# Altium integrated library NXP_60_26022015.IntLib: 1306 symbols (part 8 of 28)
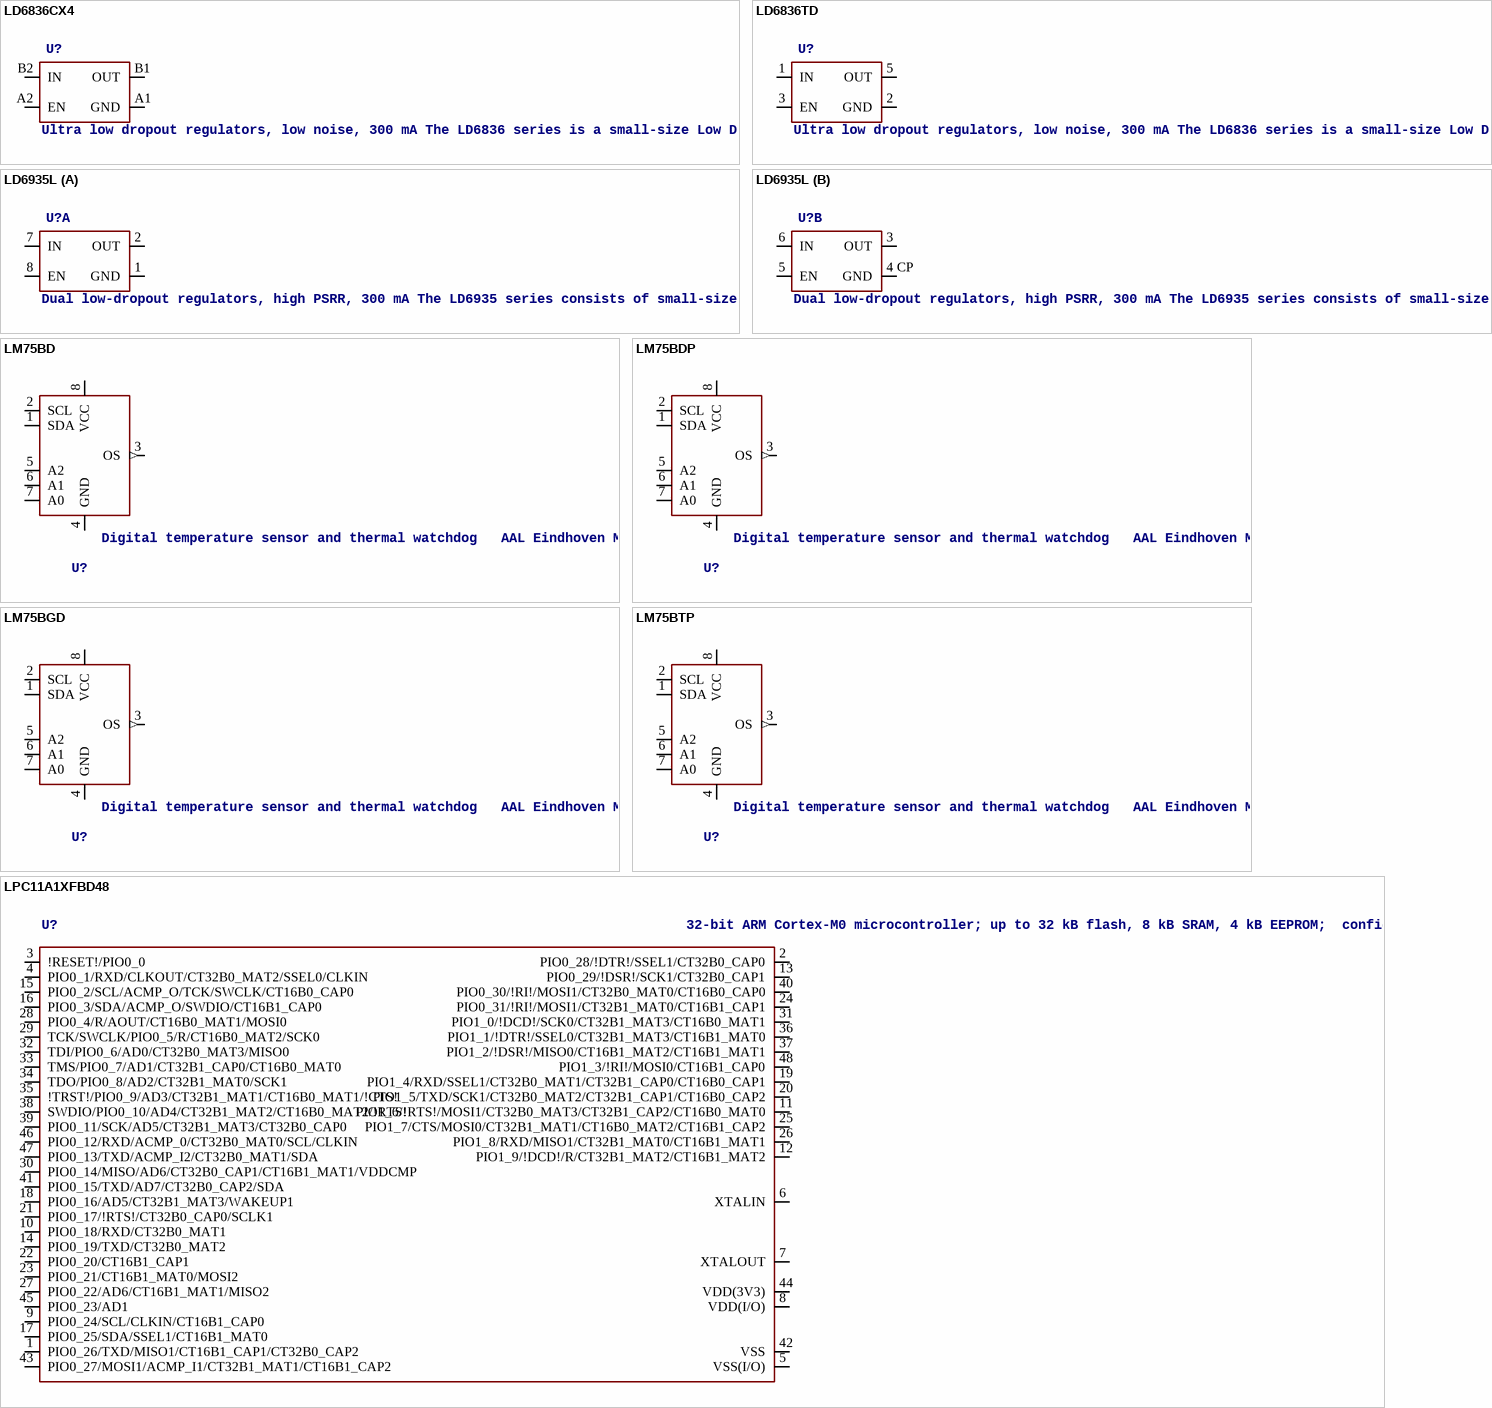
[diagram p192: symbols LD6836CX4 to LPC11A1XFBD48]

## LD6935L
designator U?, comment Dual low-dropout regulators, high PSRR, 300 mA The LD6935 series consists of small-size dual Low DropOut regulators (LDO). Each device delivers two times 300 mA with a typical voltage drop of 240 mV at 300 mA for each LDO. Each device offers two individual fixed nominal output voltages (VO(nom)) from 1.2 V to 3.6 V. The LDO has an integrated Soft start to control the inrush current during start-up. The output states when disabled can be high-ohmic 3-state or auto discharge. Optionally a delayed output circuit is available for the second output. The devices are available in DFN1612-8 (SOT1225) plastic package with a height of 0.4 mm.    AAL Eindhoven MK
OUT1: 1V8; OUT2: 2V8; OUTPUT: Pull Down; OUTPUT: High Ohmic; MISC: Delay Circuit; OUT1: 3V1; OUT1: 3V3; OUT1: 2V8; OUT2: 1V8; OUT2: 3V3
footprint SOT1225
part A pins: 1 GND (power), 2 OUT, 7 IN, 8 EN
part B pins: 3 OUT, 4 CP GND (power), 5 EN, 6 IN

## LM75BD
designator U?, comment Digital temperature sensor and thermal watchdog   AAL Eindhoven MK
footprint SOT96-1
pins: 1 SDA, 2 SCL, 3 OS (out), 4 GND, 5 A2, 6 A1, 7 A0, 8 VCC (power)

## LM75BDP
designator U?, comment Digital temperature sensor and thermal watchdog   AAL Eindhoven MK
footprint SOT505-1
pins: 1 SDA, 2 SCL, 3 OS (out), 4 GND, 5 A2, 6 A1, 7 A0, 8 VCC (power)

## LM75BGD
designator U?, comment Digital temperature sensor and thermal watchdog   AAL Eindhoven MK
footprint SOT996-2/3
pins: 1 SDA, 2 SCL, 3 OS (out), 4 GND, 5 A2, 6 A1, 7 A0, 8 VCC (power)

## LM75BTP
designator U?, comment Digital temperature sensor and thermal watchdog   AAL Eindhoven MK
footprint SOT1069-2
pins: 1 SDA, 2 SCL, 3 OS (out), 4 GND, 5 A2, 6 A1, 7 A0, 8 VCC (power)

## LPC11A1XFBD48
designator U?, comment 32-bit ARM Cortex-M0 microcontroller; up to 32 kB flash, 8 kB SRAM, 4 kB EEPROM;  configurable analog/mixed-signal The LPC11Axx are an ARM Cortex-M0 based, low-cost 32-bit MCU family, designed for 8/16-bit microcontroller applications, offering performance, low power, simple instruction set and memory addressing together with reduced code size compared to existing 8/16-bit architectures. The LPC11Axx operate at CPU frequencies of up to 50 MHz. Analog/mixed-signal subsystems can be configured by software from interconnected digital and analog peripherals. The digital peripherals on the LPC11Axx include up to 32 kB of flash memory, up to 4 kB of EEPROM data memory, up to 8 kB of SRAM data memory, a Fast-mode Plus I 2 C-bus interface, a RS-485/EIA-485 USART, two SSP controllers, four general purpose counter/timers, and up to 42 general purpose I/O pins. Analog peripherals include a 10-bit ADC, a 10-bit DAC, an analog comparator, a temperature sensor, an internal voltage reference, and UnderVoltage LockOut (UVLO) protection.    AAL Eindhoven MK
footprint SOT313-2
pins: 1 PIO0_26/TXD/MISO1/CT16B1_CAP1/CT32B0_CAP2, 2 PIO0_28/!DTR!/SSEL1/CT32B0_CAP0, 3 !RESET!/PIO0_0, 4 PIO0_1/RXD/CLKOUT/CT32B0_MAT2/SSEL0/CLKIN, 5 VSS(I/O) (power), 6 XTALIN, 7 XTALOUT, 8 VDD(I/O) (power), 9 PIO0_24/SCL/CLKIN/CT16B1_CAP0, 10 PIO0_18/RXD/CT32B0_MAT1, 11 PIO1_6/!RTS!/MOSI1/CT32B0_MAT3/CT32B1_CAP2/CT16B0_MAT0, 12 PIO1_9/!DCD!/R/CT32B1_MAT2/CT16B1_MAT2, 13 PIO0_29/!DSR!/SCK1/CT32B0_CAP1, 14 PIO0_19/TXD/CT32B0_MAT2, 15 PIO0_2/SCL/ACMP_O/TCK/SWCLK/CT16B0_CAP0, 16 PIO0_3/SDA/ACMP_O/SWDIO/CT16B1_CAP0, 17 PIO0_25/SDA/SSEL1/CT16B1_MAT0, 18 PIO0_16/AD5/CT32B1_MAT3/WAKEUP1, 19 PIO1_4/RXD/SSEL1/CT32B0_MAT1/CT32B1_CAP0/CT16B0_CAP1, 20 PIO1_5/TXD/SCK1/CT32B0_MAT2/CT32B1_CAP1/CT16B0_CAP2, 21 PIO0_17/!RTS!/CT32B0_CAP0/SCLK1, 22 PIO0_20/CT16B1_CAP1, 23 PIO0_21/CT16B1_MAT0/MOSI2, 24 PIO0_31/!RI!/MOSI1/CT32B1_MAT0/CT16B1_CAP1, 25 PIO1_7/CTS/MOSI0/CT32B1_MAT1/CT16B0_MAT2/CT16B1_CAP2, 26 PIO1_8/RXD/MISO1/CT32B1_MAT0/CT16B1_MAT1, 27 PIO0_22/AD6/CT16B1_MAT1/MISO2, 28 PIO0_4/R/AOUT/CT16B0_MAT1/MOSI0, 29 TCK/SWCLK/PIO0_5/R/CT16B0_MAT2/SCK0, 30 PIO0_14/MISO/AD6/CT32B0_CAP1/CT16B1_MAT1/VDDCMP, 31 PIO1_0/!DCD!/SCK0/CT32B1_MAT3/CT16B0_MAT1, 32 TDI/PIO0_6/AD0/CT32B0_MAT3/MISO0, 33 TMS/PIO0_7/AD1/CT32B1_CAP0/CT16B0_MAT0, 34 TDO/PIO0_8/AD2/CT32B1_MAT0/SCK1, 35 !TRST!/PIO0_9/AD3/CT32B1_MAT1/CT16B0_MAT1/!CTS!, 36 PIO1_1/!DTR!/SSEL0/CT32B1_MAT3/CT16B1_MAT0, 37 PIO1_2/!DSR!/MISO0/CT16B1_MAT2/CT16B1_MAT1, 38 SWDIO/PIO0_10/AD4/CT32B1_MAT2/CT16B0_MAT2/!RTS!, 39 PIO0_11/SCK/AD5/CT32B1_MAT3/CT32B0_CAP0, 40 PIO0_30/!RI!/MOSI1/CT32B0_MAT0/CT16B0_CAP0, 41 PIO0_15/TXD/AD7/CT32B0_CAP2/SDA, 42 VSS (power), 43 PIO0_27/MOSI1/ACMP_I1/CT32B1_MAT1/CT16B1_CAP2, 44 VDD(3V3) (power), 45 PIO0_23/AD1, 46 PIO0_12/RXD/ACMP_0/CT32B0_MAT0/SCL/CLKIN, 47 PIO0_13/TXD/ACMP_I2/CT32B0_MAT1/SDA, 48 PIO1_3/!RI!/MOSI0/CT16B1_CAP0

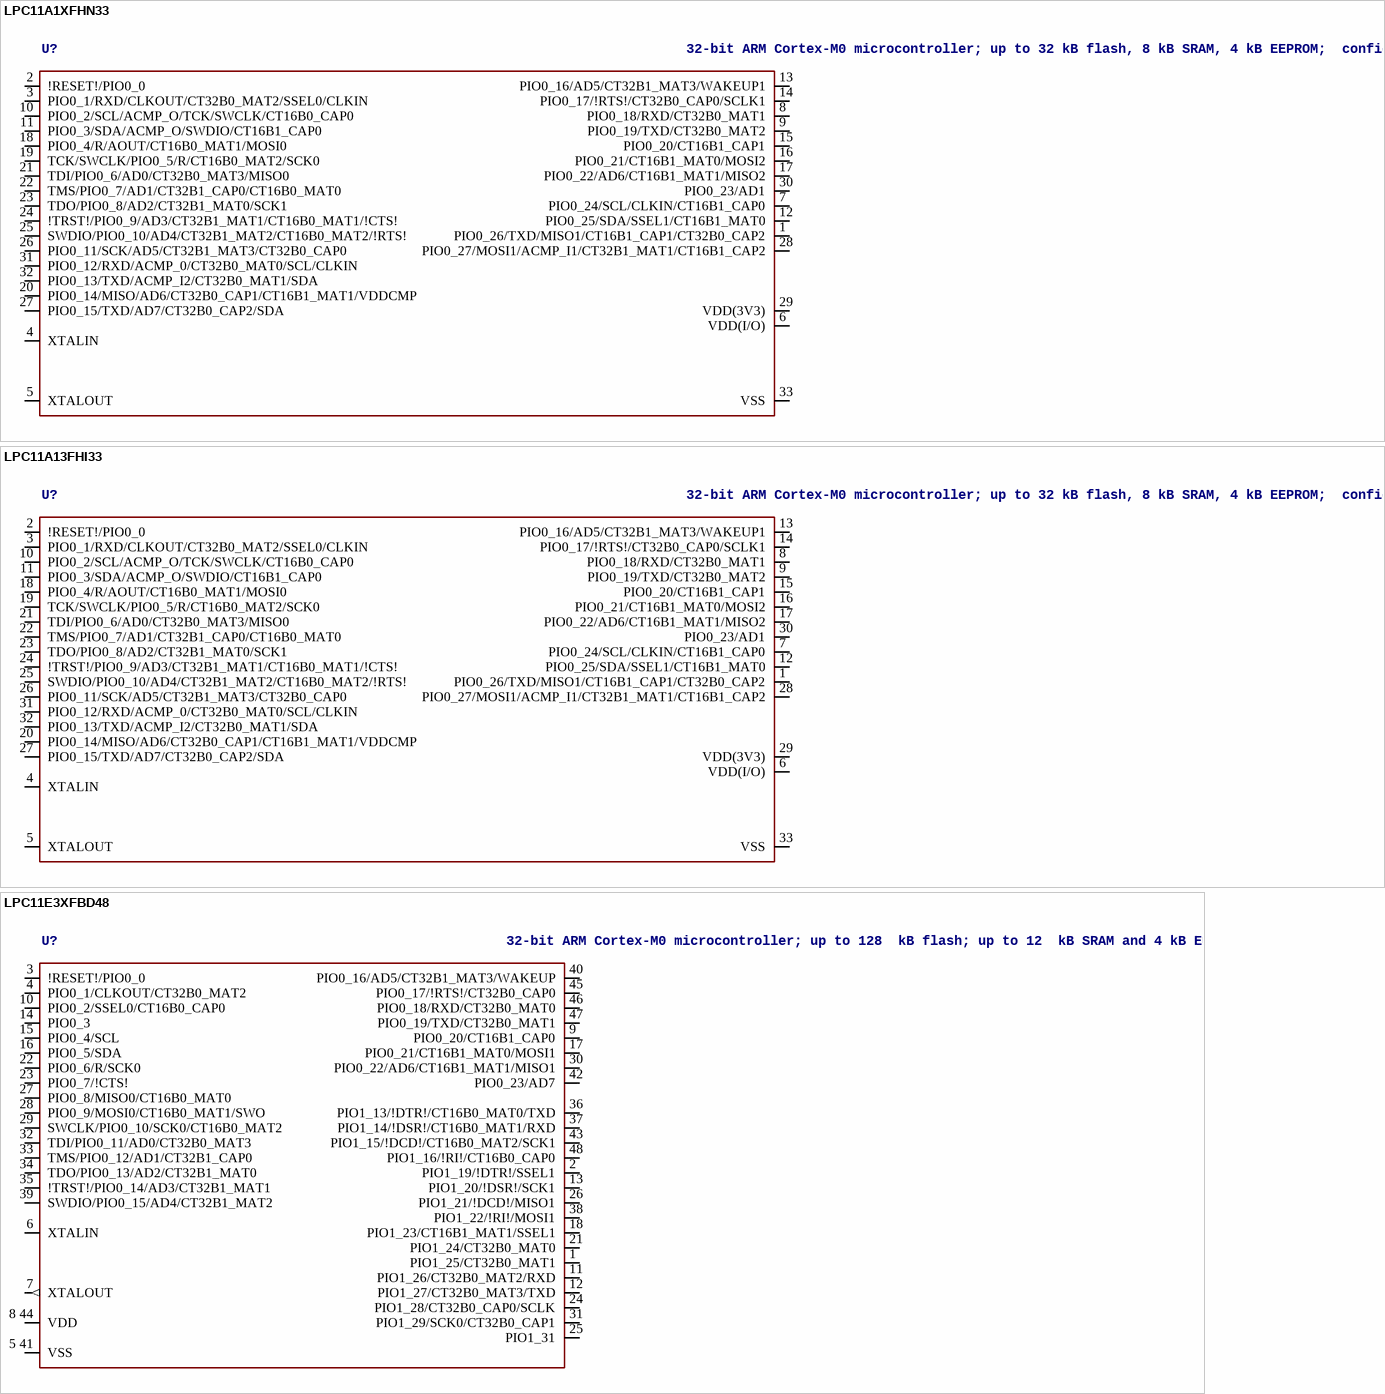
[diagram p40: symbols LPC11A1XFHN33 to LPC11E3XFBD48]

## LPC11A1XFHN33
designator U?, comment 32-bit ARM Cortex-M0 microcontroller; up to 32 kB flash, 8 kB SRAM, 4 kB EEPROM;  configurable analog/mixed-signal The LPC11Axx are an ARM Cortex-M0 based, low-cost 32-bit MCU family, designed for 8/16-bit microcontroller applications, offering performance, low power, simple instruction set and memory addressing together with reduced code size compared to existing 8/16-bit architectures. The LPC11Axx operate at CPU frequencies of up to 50 MHz. Analog/mixed-signal subsystems can be configured by software from interconnected digital and analog peripherals. The digital peripherals on the LPC11Axx include up to 32 kB of flash memory, up to 4 kB of EEPROM data memory, up to 8 kB of SRAM data memory, a Fast-mode Plus I 2 C-bus interface, a RS-485/EIA-485 USART, two SSP controllers, four general purpose counter/timers, and up to 42 general purpose I/O pins. Analog peripherals include a 10-bit ADC, a 10-bit DAC, an analog comparator, a temperature sensor, an internal voltage reference, and UnderVoltage LockOut (UVLO) protection.    AAL Eindhoven MK
footprint SOT-HVQFN33
pins: 1 PIO0_26/TXD/MISO1/CT16B1_CAP1/CT32B0_CAP2, 2 !RESET!/PIO0_0, 3 PIO0_1/RXD/CLKOUT/CT32B0_MAT2/SSEL0/CLKIN, 4 XTALIN, 5 XTALOUT, 6 VDD(I/O) (power), 7 PIO0_24/SCL/CLKIN/CT16B1_CAP0, 8 PIO0_18/RXD/CT32B0_MAT1, 9 PIO0_19/TXD/CT32B0_MAT2, 10 PIO0_2/SCL/ACMP_O/TCK/SWCLK/CT16B0_CAP0, 11 PIO0_3/SDA/ACMP_O/SWDIO/CT16B1_CAP0, 12 PIO0_25/SDA/SSEL1/CT16B1_MAT0, 13 PIO0_16/AD5/CT32B1_MAT3/WAKEUP1, 14 PIO0_17/!RTS!/CT32B0_CAP0/SCLK1, 15 PIO0_20/CT16B1_CAP1, 16 PIO0_21/CT16B1_MAT0/MOSI2, 17 PIO0_22/AD6/CT16B1_MAT1/MISO2, 18 PIO0_4/R/AOUT/CT16B0_MAT1/MOSI0, 19 TCK/SWCLK/PIO0_5/R/CT16B0_MAT2/SCK0, 20 PIO0_14/MISO/AD6/CT32B0_CAP1/CT16B1_MAT1/VDDCMP, 21 TDI/PIO0_6/AD0/CT32B0_MAT3/MISO0, 22 TMS/PIO0_7/AD1/CT32B1_CAP0/CT16B0_MAT0, 23 TDO/PIO0_8/AD2/CT32B1_MAT0/SCK1, 24 !TRST!/PIO0_9/AD3/CT32B1_MAT1/CT16B0_MAT1/!CTS!, 25 SWDIO/PIO0_10/AD4/CT32B1_MAT2/CT16B0_MAT2/!RTS!, 26 PIO0_11/SCK/AD5/CT32B1_MAT3/CT32B0_CAP0, 27 PIO0_15/TXD/AD7/CT32B0_CAP2/SDA, 28 PIO0_27/MOSI1/ACMP_I1/CT32B1_MAT1/CT16B1_CAP2, 29 VDD(3V3) (power), 30 PIO0_23/AD1, 31 PIO0_12/RXD/ACMP_0/CT32B0_MAT0/SCL/CLKIN, 32 PIO0_13/TXD/ACMP_I2/CT32B0_MAT1/SDA, 33 VSS (power)

## LPC11A13FHI33
designator U?, comment 32-bit ARM Cortex-M0 microcontroller; up to 32 kB flash, 8 kB SRAM, 4 kB EEPROM;  configurable analog/mixed-signal The LPC11Axx are an ARM Cortex-M0 based, low-cost 32-bit MCU family, designed for 8/16-bit microcontroller applications, offering performance, low power, simple instruction set and memory addressing together with reduced code size compared to existing 8/16-bit architectures. The LPC11Axx operate at CPU frequencies of up to 50 MHz. Analog/mixed-signal subsystems can be configured by software from interconnected digital and analog peripherals. The digital peripherals on the LPC11Axx include up to 32 kB of flash memory, up to 4 kB of EEPROM data memory, up to 8 kB of SRAM data memory, a Fast-mode Plus I 2 C-bus interface, a RS-485/EIA-485 USART, two SSP controllers, four general purpose counter/timers, and up to 42 general purpose I/O pins. Analog peripherals include a 10-bit ADC, a 10-bit DAC, an analog comparator, a temperature sensor, an internal voltage reference, and UnderVoltage LockOut (UVLO) protection.    AAL Eindhoven MK
footprint SOT617-1
pins: 1 PIO0_26/TXD/MISO1/CT16B1_CAP1/CT32B0_CAP2, 2 !RESET!/PIO0_0, 3 PIO0_1/RXD/CLKOUT/CT32B0_MAT2/SSEL0/CLKIN, 4 XTALIN, 5 XTALOUT, 6 VDD(I/O) (power), 7 PIO0_24/SCL/CLKIN/CT16B1_CAP0, 8 PIO0_18/RXD/CT32B0_MAT1, 9 PIO0_19/TXD/CT32B0_MAT2, 10 PIO0_2/SCL/ACMP_O/TCK/SWCLK/CT16B0_CAP0, 11 PIO0_3/SDA/ACMP_O/SWDIO/CT16B1_CAP0, 12 PIO0_25/SDA/SSEL1/CT16B1_MAT0, 13 PIO0_16/AD5/CT32B1_MAT3/WAKEUP1, 14 PIO0_17/!RTS!/CT32B0_CAP0/SCLK1, 15 PIO0_20/CT16B1_CAP1, 16 PIO0_21/CT16B1_MAT0/MOSI2, 17 PIO0_22/AD6/CT16B1_MAT1/MISO2, 18 PIO0_4/R/AOUT/CT16B0_MAT1/MOSI0, 19 TCK/SWCLK/PIO0_5/R/CT16B0_MAT2/SCK0, 20 PIO0_14/MISO/AD6/CT32B0_CAP1/CT16B1_MAT1/VDDCMP, 21 TDI/PIO0_6/AD0/CT32B0_MAT3/MISO0, 22 TMS/PIO0_7/AD1/CT32B1_CAP0/CT16B0_MAT0, 23 TDO/PIO0_8/AD2/CT32B1_MAT0/SCK1, 24 !TRST!/PIO0_9/AD3/CT32B1_MAT1/CT16B0_MAT1/!CTS!, 25 SWDIO/PIO0_10/AD4/CT32B1_MAT2/CT16B0_MAT2/!RTS!, 26 PIO0_11/SCK/AD5/CT32B1_MAT3/CT32B0_CAP0, 27 PIO0_15/TXD/AD7/CT32B0_CAP2/SDA, 28 PIO0_27/MOSI1/ACMP_I1/CT32B1_MAT1/CT16B1_CAP2, 29 VDD(3V3) (power), 30 PIO0_23/AD1, 31 PIO0_12/RXD/ACMP_0/CT32B0_MAT0/SCL/CLKIN, 32 PIO0_13/TXD/ACMP_I2/CT32B0_MAT1/SDA, 33 VSS (power)

## LPC11E3XFBD48
designator U?, comment 32-bit ARM Cortex-M0 microcontroller; up to 128  kB flash; up to 12  kB SRAM and 4 kB EEPROM; USART The LPC11E3x are a ARM Cortex-M0 based, low-cost 32-bit MCU family, designed for 8/16-bit microcontroller applications, offering performance, low power, simple instruction set and memory addressing together with reduced code size compared to existing 8/16-bit architectures. The LPC11E3x operate at CPU frequencies of up to 50 MHz. The peripheral complement of the LPC11E3x includes up to 128 kB of flash memory, up to 12 kB of SRAM data memory and 4 kB EEPROM, one Fast-mode Plus I 2 C-bus interface, one RS-485/EIA-485 USART with support for synchronous mode and smart card interface, two SSP interfaces, four general purpose counter/timers, a 10-bit ADC, and up to 54 general purpose I/O pins.    AAL Eindhoven MK
footprint SOT313-2
pins: 1 PIO1_25/CT32B0_MAT1, 2 PIO1_19/!DTR!/SSEL1, 3 !RESET!/PIO0_0, 4 PIO0_1/CLKOUT/CT32B0_MAT2, 5 41 VSS (power), 6 XTALIN, 7 XTALOUT (out), 8 44 VDD (power), 9 PIO0_20/CT16B1_CAP0, 10 PIO0_2/SSEL0/CT16B0_CAP0, 11 PIO1_26/CT32B0_MAT2/RXD, 12 PIO1_27/CT32B0_MAT3/TXD, 13 PIO1_20/!DSR!/SCK1, 14 PIO0_3, 15 PIO0_4/SCL, 16 PIO0_5/SDA, 17 PIO0_21/CT16B1_MAT0/MOSI1, 18 PIO1_23/CT16B1_MAT1/SSEL1, 21 PIO1_24/CT32B0_MAT0, 22 PIO0_6/R/SCK0, 23 PIO0_7/!CTS!, 24 PIO1_28/CT32B0_CAP0/SCLK, 25 PIO1_31, 26 PIO1_21/!DCD!/MISO1, 27 PIO0_8/MISO0/CT16B0_MAT0, 28 PIO0_9/MOSI0/CT16B0_MAT1/SWO, 29 SWCLK/PIO0_10/SCK0/CT16B0_MAT2, 30 PIO0_22/AD6/CT16B1_MAT1/MISO1, 31 PIO1_29/SCK0/CT32B0_CAP1, 32 TDI/PIO0_11/AD0/CT32B0_MAT3, 33 TMS/PIO0_12/AD1/CT32B1_CAP0, 34 TDO/PIO0_13/AD2/CT32B1_MAT0, 35 !TRST!/PIO0_14/AD3/CT32B1_MAT1, 36 PIO1_13/!DTR!/CT16B0_MAT0/TXD, 37 PIO1_14/!DSR!/CT16B0_MAT1/RXD, 38 PIO1_22/!RI!/MOSI1, 39 SWDIO/PIO0_15/AD4/CT32B1_MAT2, 40 PIO0_16/AD5/CT32B1_MAT3/WAKEUP, 42 PIO0_23/AD7, 43 PIO1_15/!DCD!/CT16B0_MAT2/SCK1, 45 PIO0_17/!RTS!/CT32B0_CAP0, 46 PIO0_18/RXD/CT32B0_MAT0, 47 PIO0_19/TXD/CT32B0_MAT1, 48 PIO1_16/!RI!/CT16B0_CAP0

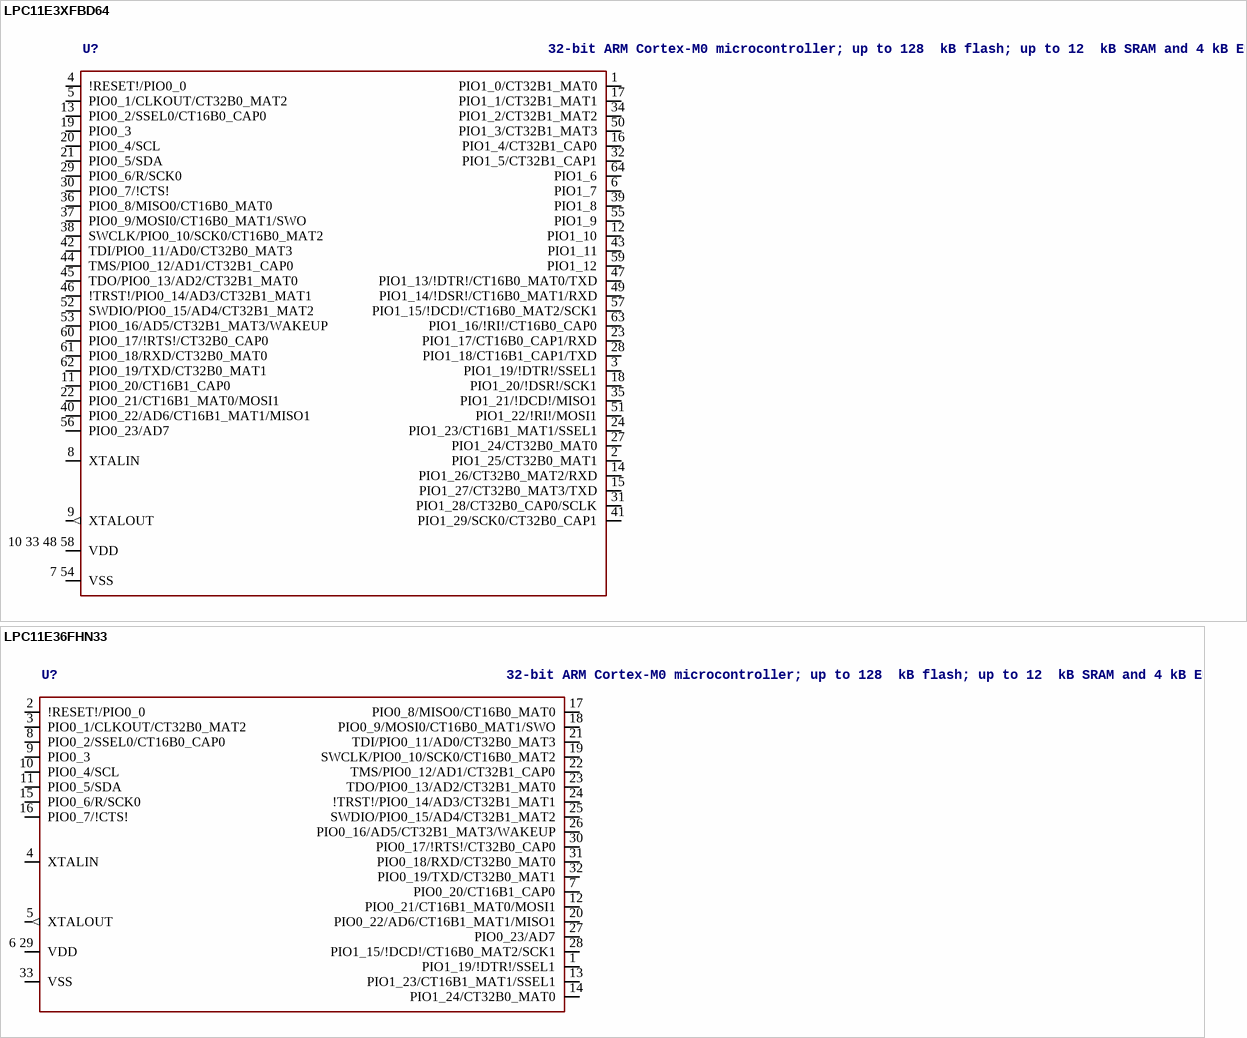
[diagram p41: symbols LPC11E3XFBD64 to LPC11E36FHN33]

## LPC11E3XFBD64
designator U?, comment 32-bit ARM Cortex-M0 microcontroller; up to 128  kB flash; up to 12  kB SRAM and 4 kB EEPROM; USART The LPC11E3x are a ARM Cortex-M0 based, low-cost 32-bit MCU family, designed for 8/16-bit microcontroller applications, offering performance, low power, simple instruction set and memory addressing together with reduced code size compared to existing 8/16-bit architectures. The LPC11E3x operate at CPU frequencies of up to 50 MHz. The peripheral complement of the LPC11E3x includes up to 128 kB of flash memory, up to 12 kB of SRAM data memory and 4 kB EEPROM, one Fast-mode Plus I 2 C-bus interface, one RS-485/EIA-485 USART with support for synchronous mode and smart card interface, two SSP interfaces, four general purpose counter/timers, a 10-bit ADC, and up to 54 general purpose I/O pins.    AAL Eindhoven MK
footprint SOT314-2
pins: 1 PIO1_0/CT32B1_MAT0, 2 PIO1_25/CT32B0_MAT1, 3 PIO1_19/!DTR!/SSEL1, 4 !RESET!/PIO0_0, 5 PIO0_1/CLKOUT/CT32B0_MAT2, 6 PIO1_7, 7 54 VSS (power), 8 XTALIN, 9 XTALOUT (out), 10 33 48 58 VDD (power), 11 PIO0_20/CT16B1_CAP0, 12 PIO1_10, 13 PIO0_2/SSEL0/CT16B0_CAP0, 14 PIO1_26/CT32B0_MAT2/RXD, 15 PIO1_27/CT32B0_MAT3/TXD, 16 PIO1_4/CT32B1_CAP0, 17 PIO1_1/CT32B1_MAT1, 18 PIO1_20/!DSR!/SCK1, 19 PIO0_3, 20 PIO0_4/SCL, 21 PIO0_5/SDA, 22 PIO0_21/CT16B1_MAT0/MOSI1, 23 PIO1_17/CT16B0_CAP1/RXD, 24 PIO1_23/CT16B1_MAT1/SSEL1, 27 PIO1_24/CT32B0_MAT0, 28 PIO1_18/CT16B1_CAP1/TXD, 29 PIO0_6/R/SCK0, 30 PIO0_7/!CTS!, 31 PIO1_28/CT32B0_CAP0/SCLK, 32 PIO1_5/CT32B1_CAP1, 34 PIO1_2/CT32B1_MAT2, 35 PIO1_21/!DCD!/MISO1, 36 PIO0_8/MISO0/CT16B0_MAT0, 37 PIO0_9/MOSI0/CT16B0_MAT1/SWO, 38 SWCLK/PIO0_10/SCK0/CT16B0_MAT2, 39 PIO1_8, 40 PIO0_22/AD6/CT16B1_MAT1/MISO1, 41 PIO1_29/SCK0/CT32B0_CAP1, 42 TDI/PIO0_11/AD0/CT32B0_MAT3, 43 PIO1_11, 44 TMS/PIO0_12/AD1/CT32B1_CAP0, 45 TDO/PIO0_13/AD2/CT32B1_MAT0, 46 !TRST!/PIO0_14/AD3/CT32B1_MAT1, 47 PIO1_13/!DTR!/CT16B0_MAT0/TXD, 49 PIO1_14/!DSR!/CT16B0_MAT1/RXD, 50 PIO1_3/CT32B1_MAT3, 51 PIO1_22/!RI!/MOSI1, 52 SWDIO/PIO0_15/AD4/CT32B1_MAT2, 53 PIO0_16/AD5/CT32B1_MAT3/WAKEUP, 55 PIO1_9, 56 PIO0_23/AD7, 57 PIO1_15/!DCD!/CT16B0_MAT2/SCK1, 59 PIO1_12, 60 PIO0_17/!RTS!/CT32B0_CAP0, 61 PIO0_18/RXD/CT32B0_MAT0, 62 PIO0_19/TXD/CT32B0_MAT1, 63 PIO1_16/!RI!/CT16B0_CAP0, 64 PIO1_6

## LPC11E36FHN33
designator U?, comment 32-bit ARM Cortex-M0 microcontroller; up to 128  kB flash; up to 12  kB SRAM and 4 kB EEPROM; USART The LPC11E3x are a ARM Cortex-M0 based, low-cost 32-bit MCU family, designed for 8/16-bit microcontroller applications, offering performance, low power, simple instruction set and memory addressing together with reduced code size compared to existing 8/16-bit architectures. The LPC11E3x operate at CPU frequencies of up to 50 MHz. The peripheral complement of the LPC11E3x includes up to 128 kB of flash memory, up to 12 kB of SRAM data memory and 4 kB EEPROM, one Fast-mode Plus I 2 C-bus interface, one RS-485/EIA-485 USART with support for synchronous mode and smart card interface, two SSP interfaces, four general purpose counter/timers, a 10-bit ADC, and up to 54 general purpose I/O pins.    AAL Eindhoven MK
footprint SOT-HVQFN33
pins: 1 PIO1_19/!DTR!/SSEL1, 2 !RESET!/PIO0_0, 3 PIO0_1/CLKOUT/CT32B0_MAT2, 4 XTALIN, 5 XTALOUT (out), 6 29 VDD (power), 7 PIO0_20/CT16B1_CAP0, 8 PIO0_2/SSEL0/CT16B0_CAP0, 9 PIO0_3, 10 PIO0_4/SCL, 11 PIO0_5/SDA, 12 PIO0_21/CT16B1_MAT0/MOSI1, 13 PIO1_23/CT16B1_MAT1/SSEL1, 14 PIO1_24/CT32B0_MAT0, 15 PIO0_6/R/SCK0, 16 PIO0_7/!CTS!, 17 PIO0_8/MISO0/CT16B0_MAT0, 18 PIO0_9/MOSI0/CT16B0_MAT1/SWO, 19 SWCLK/PIO0_10/SCK0/CT16B0_MAT2, 20 PIO0_22/AD6/CT16B1_MAT1/MISO1, 21 TDI/PIO0_11/AD0/CT32B0_MAT3, 22 TMS/PIO0_12/AD1/CT32B1_CAP0, 23 TDO/PIO0_13/AD2/CT32B1_MAT0, 24 !TRST!/PIO0_14/AD3/CT32B1_MAT1, 25 SWDIO/PIO0_15/AD4/CT32B1_MAT2, 26 PIO0_16/AD5/CT32B1_MAT3/WAKEUP, 27 PIO0_23/AD7, 28 PIO1_15/!DCD!/CT16B0_MAT2/SCK1, 30 PIO0_17/!RTS!/CT32B0_CAP0, 31 PIO0_18/RXD/CT32B0_MAT0, 32 PIO0_19/TXD/CT32B0_MAT1, 33 VSS (power)

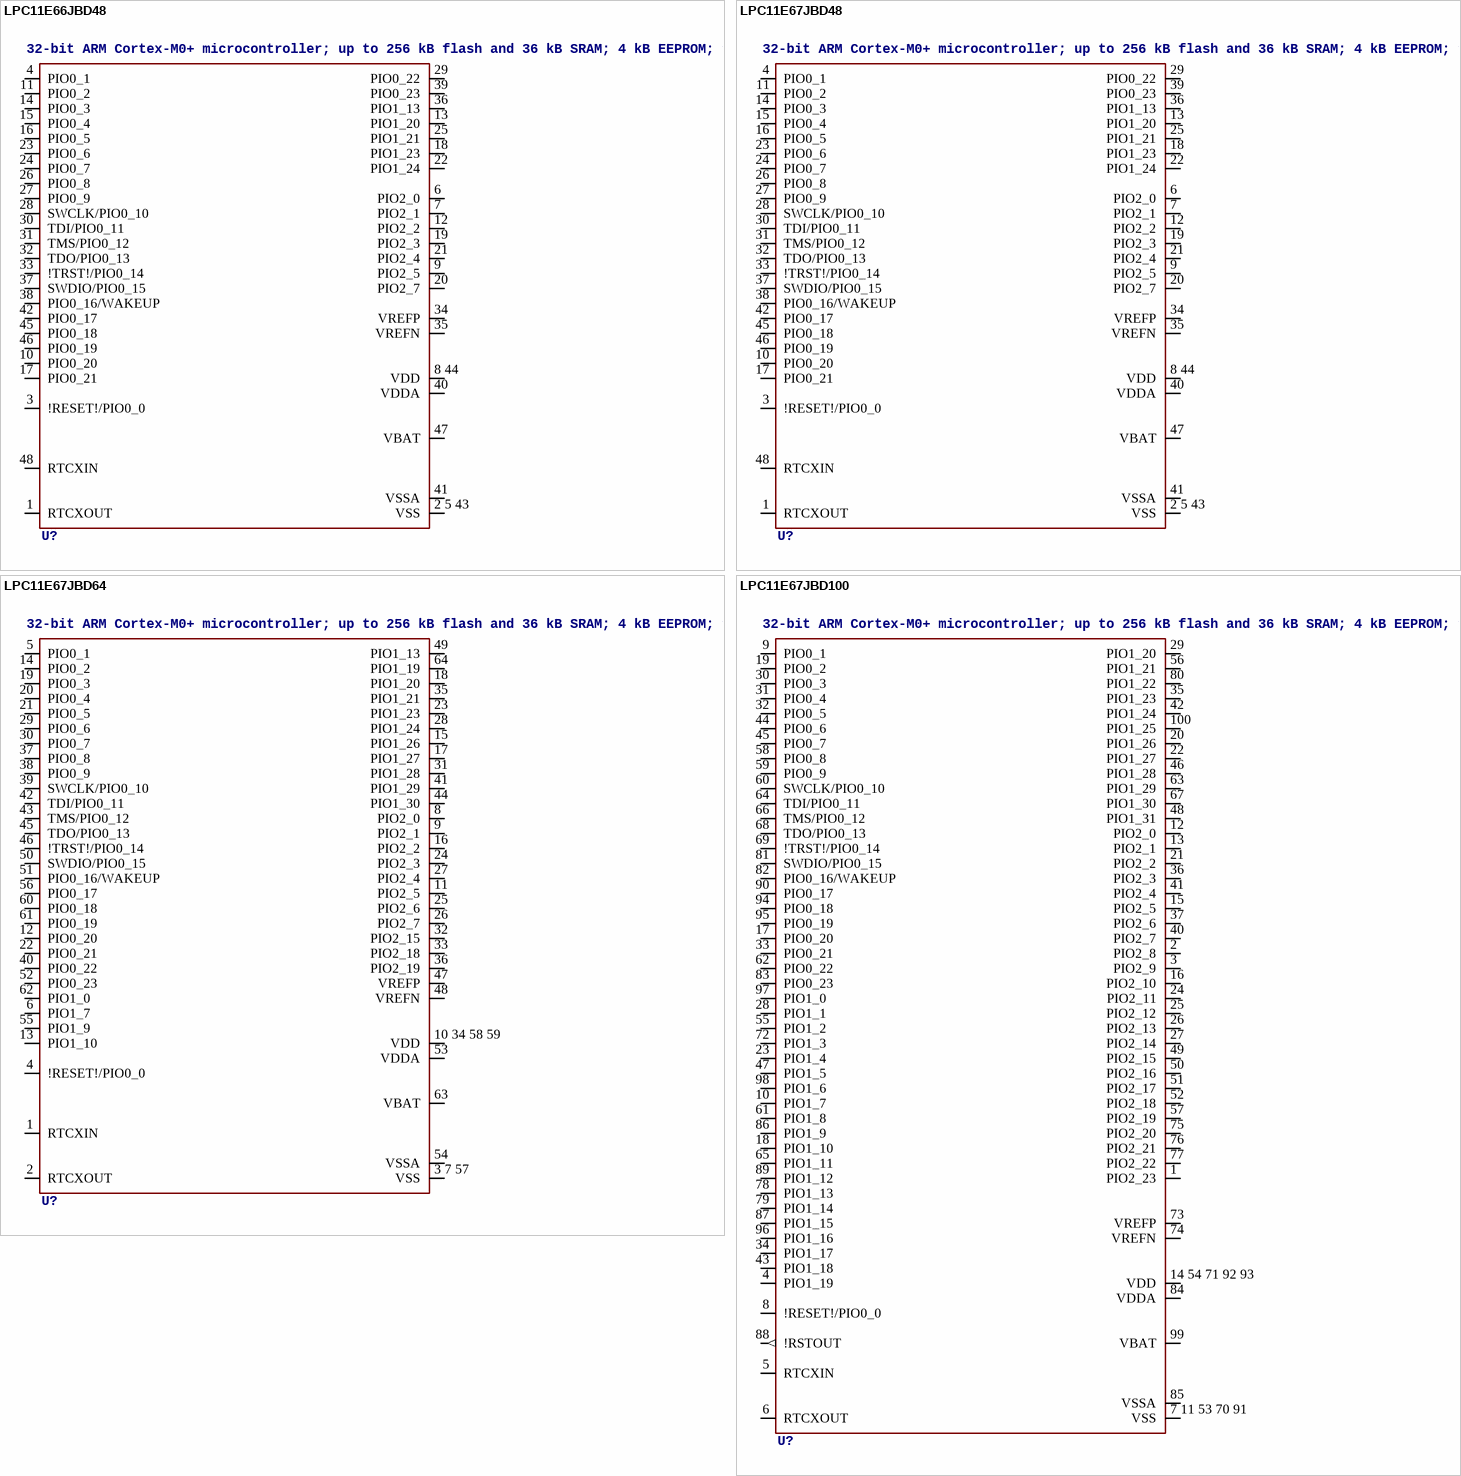
[diagram p42: symbols LPC11E66JBD48 to LPC11E67JBD100]

## LPC11E66JBD48
designator U?, comment 32-bit ARM Cortex-M0+ microcontroller; up to 256 kB flash and 36 kB SRAM; 4 kB EEPROM; 12-bit ADC The LPC11E6x are an ARM Cortex-M0+ based, low-cost 32-bit MCU family operating at CPU frequencies of up to 50 MHz. The LPC11E6x support up to 256 KB of flash memory, a 4 KB EEPROM, and 36 KB of SRAM. The ARM Cortex-M0+ is an easy-to-use, energy-efficient core using a two-stage pipeline and fast single-cycle I/O access. The peripheral complement of the LPC11E6x includes a DMA controller, a CRC engine, two I2C-bus interfaces, up to five USARTs, two SSP interfaces, PWM/timer subsystem with six configurable multi-purpose timers, a Real-Time Clock, one 12-bit ADC, temperature sensor, function-configurable I/O ports, and up to 80 general-purpose I/O pins.    AAL Eindhoven MK
ADC: 8; FLASH: 64k; GPIO: 36; SRAM: 12k; USART4: no
footprint SOT313-2
pins: 1 RTCXOUT, 2 5 43 VSS (power), 3 !RESET!/PIO0_0, 4 PIO0_1, 6 PIO2_0, 7 PIO2_1, 8 44 VDD (power), 9 PIO2_5, 10 PIO0_20, 11 PIO0_2, 12 PIO2_2, 13 PIO1_20, 14 PIO0_3, 15 PIO0_4, 16 PIO0_5, 17 PIO0_21, 18 PIO1_23, 19 PIO2_3, 20 PIO2_7, 21 PIO2_4, 22 PIO1_24, 23 PIO0_6, 24 PIO0_7, 25 PIO1_21, 26 PIO0_8, 27 PIO0_9, 28 SWCLK/PIO0_10, 29 PIO0_22, 30 TDI/PIO0_11, 31 TMS/PIO0_12, 32 TDO/PIO0_13, 33 !TRST!/PIO0_14, 34 VREFP (power), 35 VREFN (power), 36 PIO1_13, 37 SWDIO/PIO0_15, 38 PIO0_16/WAKEUP, 39 PIO0_23, 40 VDDA (power), 41 VSSA (power), 42 PIO0_17, 45 PIO0_18, 46 PIO0_19, 47 VBAT (power), 48 RTCXIN

## LPC11E67JBD48
designator U?, comment 32-bit ARM Cortex-M0+ microcontroller; up to 256 kB flash and 36 kB SRAM; 4 kB EEPROM; 12-bit ADC The LPC11E6x are an ARM Cortex-M0+ based, low-cost 32-bit MCU family operating at CPU frequencies of up to 50 MHz. The LPC11E6x support up to 256 KB of flash memory, a 4 KB EEPROM, and 36 KB of SRAM. The ARM Cortex-M0+ is an easy-to-use, energy-efficient core using a two-stage pipeline and fast single-cycle I/O access. The peripheral complement of the LPC11E6x includes a DMA controller, a CRC engine, two I2C-bus interfaces, up to five USARTs, two SSP interfaces, PWM/timer subsystem with six configurable multi-purpose timers, a Real-Time Clock, one 12-bit ADC, temperature sensor, function-configurable I/O ports, and up to 80 general-purpose I/O pins.    AAL Eindhoven MK
ADC: 8; FLASH: 128k; GPIO: 36; SRAM: 20k; USART4: no
footprint SOT313-2
pins: 1 RTCXOUT, 2 5 43 VSS (power), 3 !RESET!/PIO0_0, 4 PIO0_1, 6 PIO2_0, 7 PIO2_1, 8 44 VDD (power), 9 PIO2_5, 10 PIO0_20, 11 PIO0_2, 12 PIO2_2, 13 PIO1_20, 14 PIO0_3, 15 PIO0_4, 16 PIO0_5, 17 PIO0_21, 18 PIO1_23, 19 PIO2_3, 20 PIO2_7, 21 PIO2_4, 22 PIO1_24, 23 PIO0_6, 24 PIO0_7, 25 PIO1_21, 26 PIO0_8, 27 PIO0_9, 28 SWCLK/PIO0_10, 29 PIO0_22, 30 TDI/PIO0_11, 31 TMS/PIO0_12, 32 TDO/PIO0_13, 33 !TRST!/PIO0_14, 34 VREFP (power), 35 VREFN (power), 36 PIO1_13, 37 SWDIO/PIO0_15, 38 PIO0_16/WAKEUP, 39 PIO0_23, 40 VDDA (power), 41 VSSA (power), 42 PIO0_17, 45 PIO0_18, 46 PIO0_19, 47 VBAT (power), 48 RTCXIN

## LPC11E67JBD64
designator U?, comment 32-bit ARM Cortex-M0+ microcontroller; up to 256 kB flash and 36 kB SRAM; 4 kB EEPROM; 12-bit ADC The LPC11E6x are an ARM Cortex-M0+ based, low-cost 32-bit MCU family operating at CPU frequencies of up to 50 MHz. The LPC11E6x support up to 256 KB of flash memory, a 4 KB EEPROM, and 36 KB of SRAM. The ARM Cortex-M0+ is an easy-to-use, energy-efficient core using a two-stage pipeline and fast single-cycle I/O access. The peripheral complement of the LPC11E6x includes a DMA controller, a CRC engine, two I2C-bus interfaces, up to five USARTs, two SSP interfaces, PWM/timer subsystem with six configurable multi-purpose timers, a Real-Time Clock, one 12-bit ADC, temperature sensor, function-configurable I/O ports, and up to 80 general-purpose I/O pins.    AAL Eindhoven MK
ADC: 10; FLASH: 128k; GPIO: 50; SRAM: 20k; USART4: no
footprint SOT314-2
pins: 1 RTCXIN, 2 RTCXOUT, 3 7 57 VSS (power), 4 !RESET!/PIO0_0, 5 PIO0_1, 6 PIO1_7, 8 PIO2_0, 9 PIO2_1, 10 34 58 59 VDD (power), 11 PIO2_5, 12 PIO0_20, 13 PIO1_10, 14 PIO0_2, 15 PIO1_26, 16 PIO2_2, 17 PIO1_27, 18 PIO1_20, 19 PIO0_3, 20 PIO0_4, 21 PIO0_5, 22 PIO0_21, 23 PIO1_23, 24 PIO2_3, 25 PIO2_6, 26 PIO2_7, 27 PIO2_4, 28 PIO1_24, 29 PIO0_6, 30 PIO0_7, 31 PIO1_28, 32 PIO2_15, 33 PIO2_18, 35 PIO1_21, 36 PIO2_19, 37 PIO0_8, 38 PIO0_9, 39 SWCLK/PIO0_10, 40 PIO0_22, 41 PIO1_29, 42 TDI/PIO0_11, 43 TMS/PIO0_12, 44 PIO1_30, 45 TDO/PIO0_13, 46 !TRST!/PIO0_14, 47 VREFP (power), 48 VREFN (power), 49 PIO1_13, 50 SWDIO/PIO0_15, 51 PIO0_16/WAKEUP, 52 PIO0_23, 53 VDDA (power), 54 VSSA (power), 55 PIO1_9, 56 PIO0_17, 60 PIO0_18, 61 PIO0_19, 62 PIO1_0, 63 VBAT (power), 64 PIO1_19

## LPC11E67JBD100
designator U?, comment 32-bit ARM Cortex-M0+ microcontroller; up to 256 kB flash and 36 kB SRAM; 4 kB EEPROM; 12-bit ADCr The LPC11E6x are an ARM Cortex-M0+ based, low-cost 32-bit MCU family operating at CPU frequencies of up to 50 MHz. The LPC11E6x support up to 256 KB of flash memory, a 4 KB EEPROM, and 36 KB of SRAM. The ARM Cortex-M0+ is an easy-to-use, energy-efficient core using a two-stage pipeline and fast single-cycle I/O access. The peripheral complement of the LPC11E6x includes a DMA controller, a CRC engine, two I2C-bus interfaces, up to five USARTs, two SSP interfaces, PWM/timer subsystem with six configurable multi-purpose timers, a Real-Time Clock, one 12-bit ADC, temperature sensor, function-configurable I/O ports, and up to 80 general-purpose I/O pins.    AAL Eindhoven MK
ADC: 12; FLASH: 128k; GPIO: 80; SRAM: 20k; USART4: yes
footprint SOT407-1
pins: 1 PIO2_23, 2 PIO2_8, 3 PIO2_9, 4 PIO1_19, 5 RTCXIN, 6 RTCXOUT, 7 11 53 70 91 VSS (power), 8 !RESET!/PIO0_0, 9 PIO0_1, 10 PIO1_7, 12 PIO2_0, 13 PIO2_1, 14 54 71 92 93 VDD (power), 15 PIO2_5, 16 PIO2_10, 17 PIO0_20, 18 PIO1_10, 19 PIO0_2, 20 PIO1_26, 21 PIO2_2, 22 PIO1_27, 23 PIO1_4, 24 PIO2_11, 25 PIO2_12, 26 PIO2_13, 27 PIO2_14, 28 PIO1_1, 29 PIO1_20, 30 PIO0_3, 31 PIO0_4, 32 PIO0_5, 33 PIO0_21, 34 PIO1_17, 35 PIO1_23, 36 PIO2_3, 37 PIO2_6, 40 PIO2_7, 41 PIO2_4, 42 PIO1_24, 43 PIO1_18, 44 PIO0_6, 45 PIO0_7, 46 PIO1_28, 47 PIO1_5, 48 PIO1_31, 49 PIO2_15, 50 PIO2_16, 51 PIO2_17, 52 PIO2_18, 55 PIO1_2, 56 PIO1_21, 57 PIO2_19, 58 PIO0_8, 59 PIO0_9, 60 SWCLK/PIO0_10, 61 PIO1_8, 62 PIO0_22, 63 PIO1_29, 64 TDI/PIO0_11, 65 PIO1_11, 66 TMS/PIO0_12, 67 PIO1_30, 68 TDO/PIO0_13, 69 !TRST!/PIO0_14, 72 PIO1_3, 73 VREFP (power), 74 VREFN (power), 75 PIO2_20, 76 PIO2_21, 77 PIO2_22, 78 PIO1_13, 79 PIO1_14, 80 PIO1_22, 81 SWDIO/PIO0_15, 82 PIO0_16/WAKEUP, 83 PIO0_23, 84 VDDA (power), 85 VSSA (power), 86 PIO1_9, 87 PIO1_15, 88 !RSTOUT (out), 89 PIO1_12, 90 PIO0_17, 94 PIO0_18, 95 PIO0_19, 96 PIO1_16, 97 PIO1_0, 98 PIO1_6, 99 VBAT (power), 100 PIO1_25

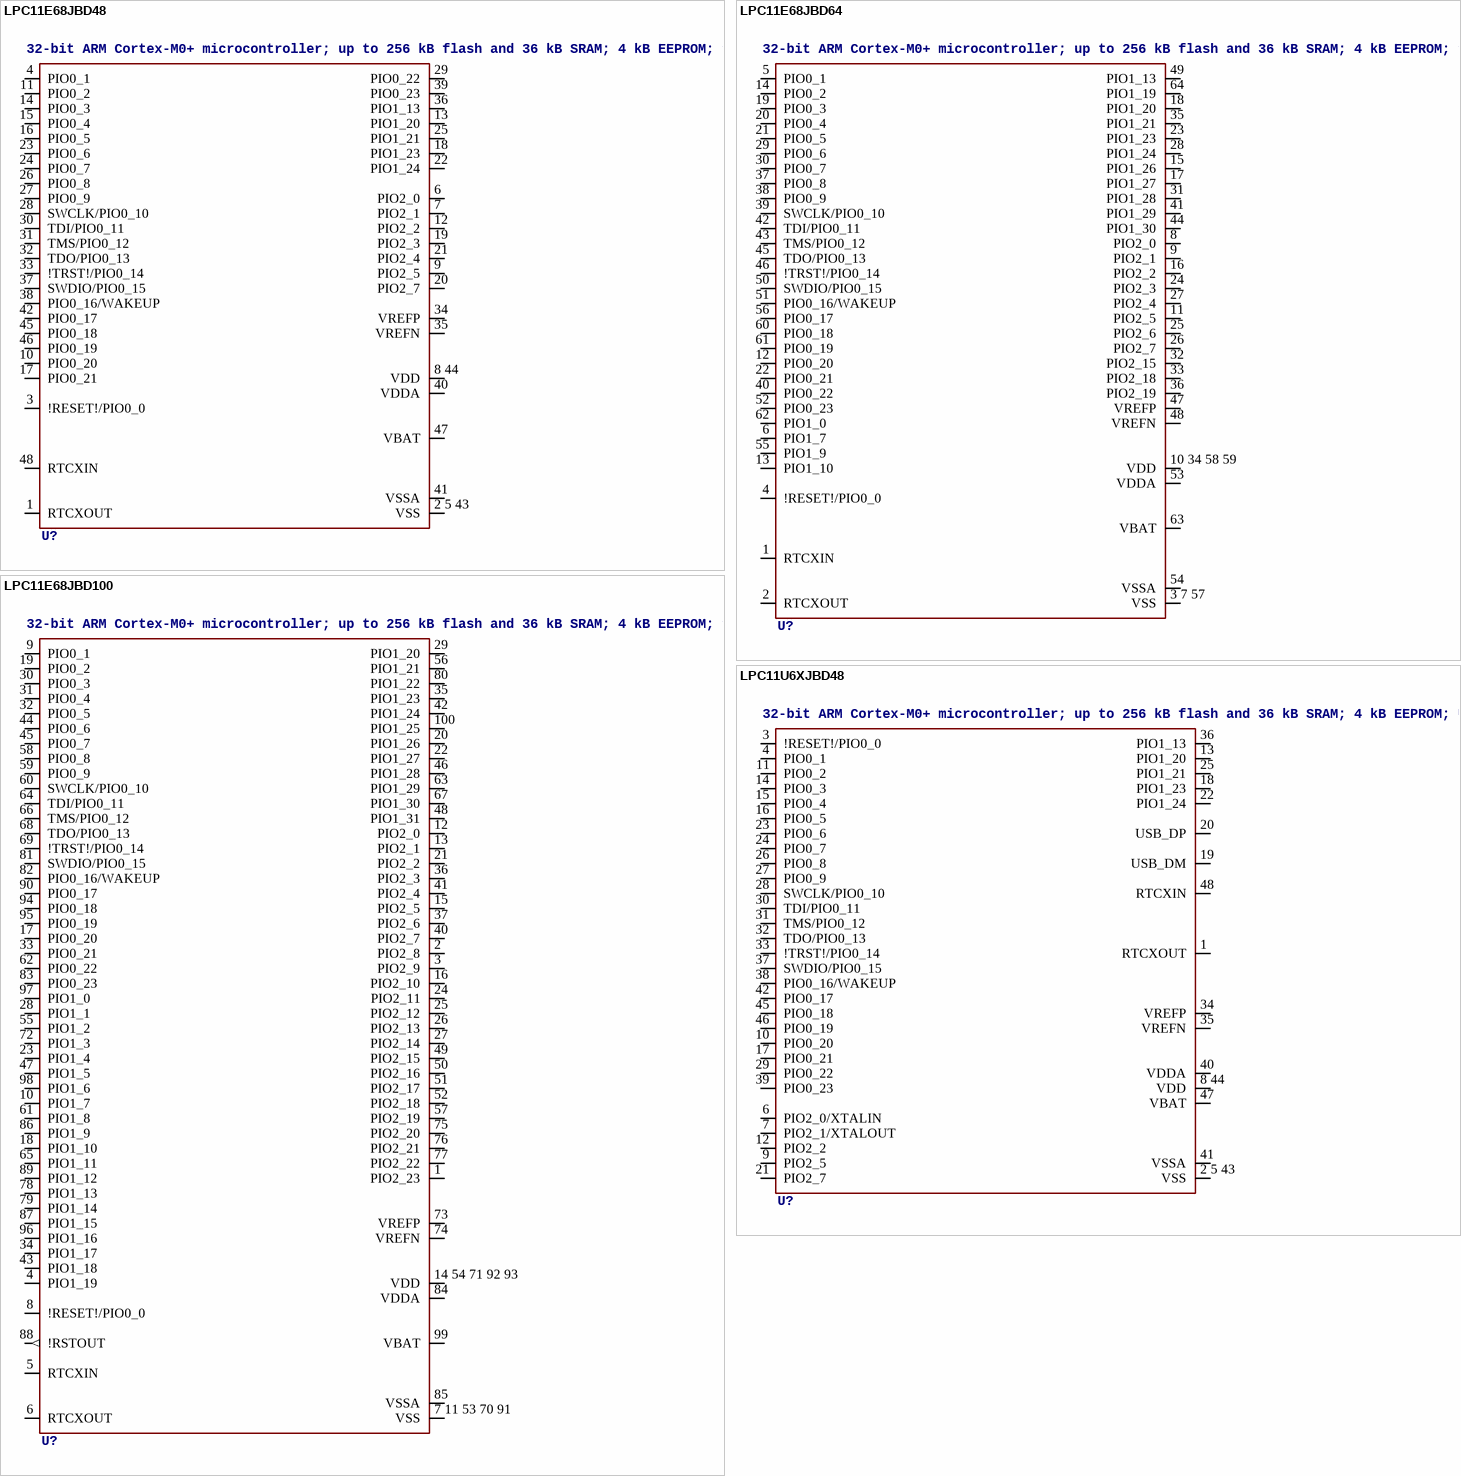
[diagram p43: symbols LPC11E68JBD48 to LPC11U6XJBD48]

## LPC11E68JBD48
designator U?, comment 32-bit ARM Cortex-M0+ microcontroller; up to 256 kB flash and 36 kB SRAM; 4 kB EEPROM; 12-bit ADC The LPC11E6x are an ARM Cortex-M0+ based, low-cost 32-bit MCU family operating at CPU frequencies of up to 50 MHz. The LPC11E6x support up to 256 KB of flash memory, a 4 KB EEPROM, and 36 KB of SRAM. The ARM Cortex-M0+ is an easy-to-use, energy-efficient core using a two-stage pipeline and fast single-cycle I/O access. The peripheral complement of the LPC11E6x includes a DMA controller, a CRC engine, two I2C-bus interfaces, up to five USARTs, two SSP interfaces, PWM/timer subsystem with six configurable multi-purpose timers, a Real-Time Clock, one 12-bit ADC, temperature sensor, function-configurable I/O ports, and up to 80 general-purpose I/O pins.    AAL Eindhoven MK
ADC: 8; FLASH: 256k; GPIO: 36; SRAM: 36k; USART4: no
footprint SOT313-2
pins: 1 RTCXOUT, 2 5 43 VSS (power), 3 !RESET!/PIO0_0, 4 PIO0_1, 6 PIO2_0, 7 PIO2_1, 8 44 VDD (power), 9 PIO2_5, 10 PIO0_20, 11 PIO0_2, 12 PIO2_2, 13 PIO1_20, 14 PIO0_3, 15 PIO0_4, 16 PIO0_5, 17 PIO0_21, 18 PIO1_23, 19 PIO2_3, 20 PIO2_7, 21 PIO2_4, 22 PIO1_24, 23 PIO0_6, 24 PIO0_7, 25 PIO1_21, 26 PIO0_8, 27 PIO0_9, 28 SWCLK/PIO0_10, 29 PIO0_22, 30 TDI/PIO0_11, 31 TMS/PIO0_12, 32 TDO/PIO0_13, 33 !TRST!/PIO0_14, 34 VREFP (power), 35 VREFN (power), 36 PIO1_13, 37 SWDIO/PIO0_15, 38 PIO0_16/WAKEUP, 39 PIO0_23, 40 VDDA (power), 41 VSSA (power), 42 PIO0_17, 45 PIO0_18, 46 PIO0_19, 47 VBAT (power), 48 RTCXIN

## LPC11E68JBD64
designator U?, comment 32-bit ARM Cortex-M0+ microcontroller; up to 256 kB flash and 36 kB SRAM; 4 kB EEPROM; 12-bit ADC The LPC11E6x are an ARM Cortex-M0+ based, low-cost 32-bit MCU family operating at CPU frequencies of up to 50 MHz. The LPC11E6x support up to 256 KB of flash memory, a 4 KB EEPROM, and 36 KB of SRAM. The ARM Cortex-M0+ is an easy-to-use, energy-efficient core using a two-stage pipeline and fast single-cycle I/O access. The peripheral complement of the LPC11E6x includes a DMA controller, a CRC engine, two I2C-bus interfaces, up to five USARTs, two SSP interfaces, PWM/timer subsystem with six configurable multi-purpose timers, a Real-Time Clock, one 12-bit ADC, temperature sensor, function-configurable I/O ports, and up to 80 general-purpose I/O pins.    AAL Eindhoven MK
ADC: 10; FLASH: 256k; GPIO: 50; SRAM: 36k; USART4: no
footprint SOT314-2
pins: 1 RTCXIN, 2 RTCXOUT, 3 7 57 VSS (power), 4 !RESET!/PIO0_0, 5 PIO0_1, 6 PIO1_7, 8 PIO2_0, 9 PIO2_1, 10 34 58 59 VDD (power), 11 PIO2_5, 12 PIO0_20, 13 PIO1_10, 14 PIO0_2, 15 PIO1_26, 16 PIO2_2, 17 PIO1_27, 18 PIO1_20, 19 PIO0_3, 20 PIO0_4, 21 PIO0_5, 22 PIO0_21, 23 PIO1_23, 24 PIO2_3, 25 PIO2_6, 26 PIO2_7, 27 PIO2_4, 28 PIO1_24, 29 PIO0_6, 30 PIO0_7, 31 PIO1_28, 32 PIO2_15, 33 PIO2_18, 35 PIO1_21, 36 PIO2_19, 37 PIO0_8, 38 PIO0_9, 39 SWCLK/PIO0_10, 40 PIO0_22, 41 PIO1_29, 42 TDI/PIO0_11, 43 TMS/PIO0_12, 44 PIO1_30, 45 TDO/PIO0_13, 46 !TRST!/PIO0_14, 47 VREFP (power), 48 VREFN (power), 49 PIO1_13, 50 SWDIO/PIO0_15, 51 PIO0_16/WAKEUP, 52 PIO0_23, 53 VDDA (power), 54 VSSA (power), 55 PIO1_9, 56 PIO0_17, 60 PIO0_18, 61 PIO0_19, 62 PIO1_0, 63 VBAT (power), 64 PIO1_19

## LPC11E68JBD100
designator U?, comment 32-bit ARM Cortex-M0+ microcontroller; up to 256 kB flash and 36 kB SRAM; 4 kB EEPROM; 12-bit ADCr The LPC11E6x are an ARM Cortex-M0+ based, low-cost 32-bit MCU family operating at CPU frequencies of up to 50 MHz. The LPC11E6x support up to 256 KB of flash memory, a 4 KB EEPROM, and 36 KB of SRAM. The ARM Cortex-M0+ is an easy-to-use, energy-efficient core using a two-stage pipeline and fast single-cycle I/O access. The peripheral complement of the LPC11E6x includes a DMA controller, a CRC engine, two I2C-bus interfaces, up to five USARTs, two SSP interfaces, PWM/timer subsystem with six configurable multi-purpose timers, a Real-Time Clock, one 12-bit ADC, temperature sensor, function-configurable I/O ports, and up to 80 general-purpose I/O pins.    AAL Eindhoven MK
ADC: 12; FLASH: 256k; GPIO: 80; SRAM: 36k; USART4: yes
footprint SOT407-1
pins: 1 PIO2_23, 2 PIO2_8, 3 PIO2_9, 4 PIO1_19, 5 RTCXIN, 6 RTCXOUT, 7 11 53 70 91 VSS (power), 8 !RESET!/PIO0_0, 9 PIO0_1, 10 PIO1_7, 12 PIO2_0, 13 PIO2_1, 14 54 71 92 93 VDD (power), 15 PIO2_5, 16 PIO2_10, 17 PIO0_20, 18 PIO1_10, 19 PIO0_2, 20 PIO1_26, 21 PIO2_2, 22 PIO1_27, 23 PIO1_4, 24 PIO2_11, 25 PIO2_12, 26 PIO2_13, 27 PIO2_14, 28 PIO1_1, 29 PIO1_20, 30 PIO0_3, 31 PIO0_4, 32 PIO0_5, 33 PIO0_21, 34 PIO1_17, 35 PIO1_23, 36 PIO2_3, 37 PIO2_6, 40 PIO2_7, 41 PIO2_4, 42 PIO1_24, 43 PIO1_18, 44 PIO0_6, 45 PIO0_7, 46 PIO1_28, 47 PIO1_5, 48 PIO1_31, 49 PIO2_15, 50 PIO2_16, 51 PIO2_17, 52 PIO2_18, 55 PIO1_2, 56 PIO1_21, 57 PIO2_19, 58 PIO0_8, 59 PIO0_9, 60 SWCLK/PIO0_10, 61 PIO1_8, 62 PIO0_22, 63 PIO1_29, 64 TDI/PIO0_11, 65 PIO1_11, 66 TMS/PIO0_12, 67 PIO1_30, 68 TDO/PIO0_13, 69 !TRST!/PIO0_14, 72 PIO1_3, 73 VREFP (power), 74 VREFN (power), 75 PIO2_20, 76 PIO2_21, 77 PIO2_22, 78 PIO1_13, 79 PIO1_14, 80 PIO1_22, 81 SWDIO/PIO0_15, 82 PIO0_16/WAKEUP, 83 PIO0_23, 84 VDDA (power), 85 VSSA (power), 86 PIO1_9, 87 PIO1_15, 88 !RSTOUT (out), 89 PIO1_12, 90 PIO0_17, 94 PIO0_18, 95 PIO0_19, 96 PIO1_16, 97 PIO1_0, 98 PIO1_6, 99 VBAT (power), 100 PIO1_25

## LPC11U6XJBD48
designator U?, comment 32-bit ARM Cortex-M0+ microcontroller; up to 256 kB flash and 36 kB SRAM; 4 kB EEPROM; USB; 12-bit ADC The LPC11U6x are an ARM Cortex-M0+ based, low-cost 32-bit MCU family operating at CPU frequencies of up to 50 MHz. The LPC11U6x support up to 256 kB of flash memory, a 4 kB EEPROM, and 36 kB of SRAM. The ARM Cortex-M0+ is an easy-to-use, energy-efficient core using a two-stage pipeline and fast single-cycle I/O access. The peripheral complement of the LPC11U6x includes a DMA controller, a CRC engine, one full-speed USB device controller with XTAL-less low-speed mode, two I2C-bus interfaces, up to five USARTs, two SSP interfaces, PWM/timer subsystem with six configurable multi-purpose timers, a Real-Time Clock, one 12-bit ADC, temperature sensor, function-configurable I/O ports, and up to 80 general-purpose I/O pins.    AAL Eindhoven MK
footprint SOT313-2
pins: 1 RTCXOUT, 2 5 43 VSS, 3 !RESET!/PIO0_0, 4 PIO0_1, 6 PIO2_0/XTALIN, 7 PIO2_1/XTALOUT, 8 44 VDD, 9 PIO2_5, 10 PIO0_20, 11 PIO0_2, 12 PIO2_2, 13 PIO1_20, 14 PIO0_3, 15 PIO0_4, 16 PIO0_5, 17 PIO0_21, 18 PIO1_23, 19 USB_DM, 20 USB_DP, 21 PIO2_7, 22 PIO1_24, 23 PIO0_6, 24 PIO0_7, 25 PIO1_21, 26 PIO0_8, 27 PIO0_9, 28 SWCLK/PIO0_10, 29 PIO0_22, 30 TDI/PIO0_11, 31 TMS/PIO0_12, 32 TDO/PIO0_13, 33 !TRST!/PIO0_14, 34 VREFP, 35 VREFN, 36 PIO1_13, 37 SWDIO/PIO0_15, 38 PIO0_16/WAKEUP, 39 PIO0_23, 40 VDDA, 41 VSSA, 42 PIO0_17, 45 PIO0_18, 46 PIO0_19, 47 VBAT, 48 RTCXIN

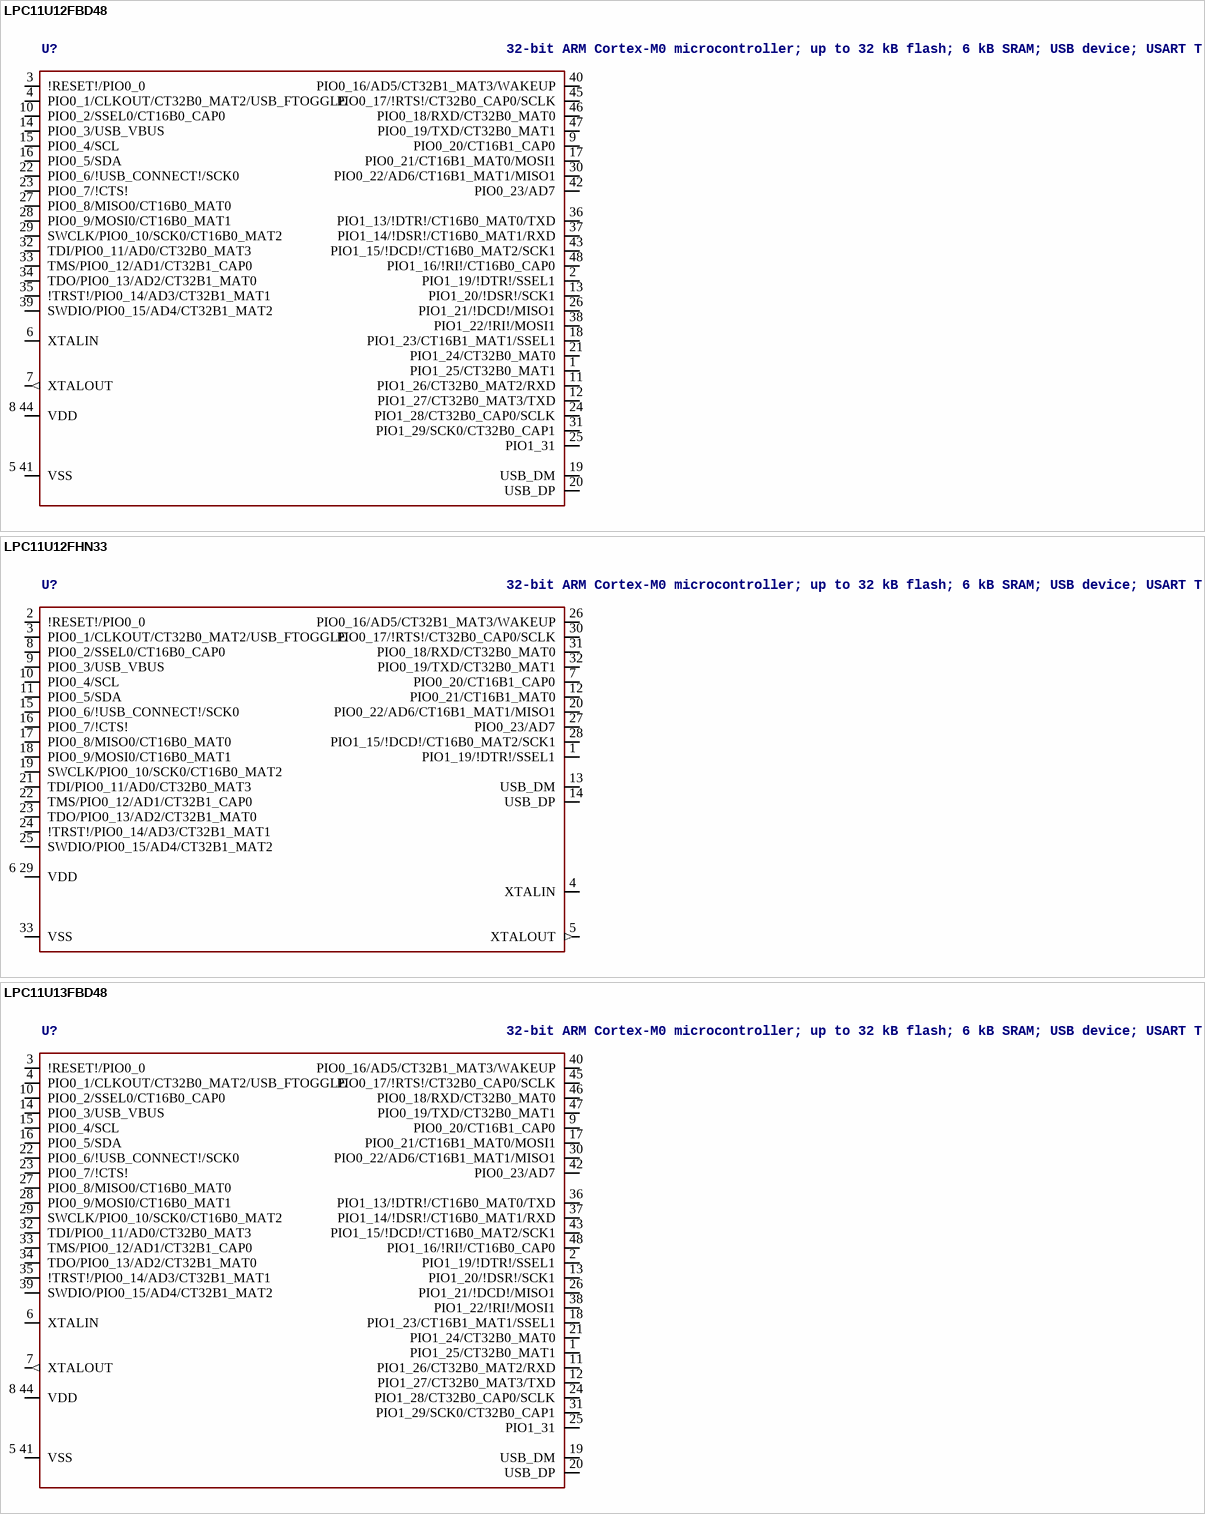
[diagram p44: symbols LPC11U12FBD48 to LPC11U13FBD48]

## LPC11U12FBD48
designator U?, comment 32-bit ARM Cortex-M0 microcontroller; up to 32 kB flash; 6 kB SRAM; USB device; USART The LPC11U1x are an ARM Cortex-M0 based, low-cost 32-bit MCU family, designed for 8/16-bit microcontroller applications, offering performance, low power, simple instruction set and memory addressing together with reduced code size compared to existing 8/16-bit architectures. The LPC11U1x operate at CPU frequencies of up to 50 MHz. Equipped with a highly flexible and configurable Full Speed USB 2.0 device controller, the LPC11U1x brings unparalleled design flexibility and seamless integration to today’s demanding connectivity solutions. The peripheral complement of the LPC11U1x includes up to 32 kB of flash memory, 6 kB of SRAM data memory, one Fast-mode Plus I 2 C-bus interface, one RS-485/EIA-485 USART with support for synchronous mode and smart card interface, two SSP interfaces, four general purpose counter/timers, a 10-bit ADC, and up to 40 general purpose I/O pins.    AAL Eindhoven MK
FLASH: 16kB; GPIO: 40; SRAM: 6kB
footprint SOT313-2
pins: 1 PIO1_25/CT32B0_MAT1, 2 PIO1_19/!DTR!/SSEL1, 3 !RESET!/PIO0_0, 4 PIO0_1/CLKOUT/CT32B0_MAT2/USB_FTOGGLE, 5 41 VSS (power), 6 XTALIN, 7 XTALOUT (out), 8 44 VDD (power), 9 PIO0_20/CT16B1_CAP0, 10 PIO0_2/SSEL0/CT16B0_CAP0, 11 PIO1_26/CT32B0_MAT2/RXD, 12 PIO1_27/CT32B0_MAT3/TXD, 13 PIO1_20/!DSR!/SCK1, 14 PIO0_3/USB_VBUS, 15 PIO0_4/SCL, 16 PIO0_5/SDA, 17 PIO0_21/CT16B1_MAT0/MOSI1, 18 PIO1_23/CT16B1_MAT1/SSEL1, 19 USB_DM, 20 USB_DP, 21 PIO1_24/CT32B0_MAT0, 22 PIO0_6/!USB_CONNECT!/SCK0, 23 PIO0_7/!CTS!, 24 PIO1_28/CT32B0_CAP0/SCLK, 25 PIO1_31, 26 PIO1_21/!DCD!/MISO1, 27 PIO0_8/MISO0/CT16B0_MAT0, 28 PIO0_9/MOSI0/CT16B0_MAT1, 29 SWCLK/PIO0_10/SCK0/CT16B0_MAT2, 30 PIO0_22/AD6/CT16B1_MAT1/MISO1, 31 PIO1_29/SCK0/CT32B0_CAP1, 32 TDI/PIO0_11/AD0/CT32B0_MAT3, 33 TMS/PIO0_12/AD1/CT32B1_CAP0, 34 TDO/PIO0_13/AD2/CT32B1_MAT0, 35 !TRST!/PIO0_14/AD3/CT32B1_MAT1, 36 PIO1_13/!DTR!/CT16B0_MAT0/TXD, 37 PIO1_14/!DSR!/CT16B0_MAT1/RXD, 38 PIO1_22/!RI!/MOSI1, 39 SWDIO/PIO0_15/AD4/CT32B1_MAT2, 40 PIO0_16/AD5/CT32B1_MAT3/WAKEUP, 42 PIO0_23/AD7, 43 PIO1_15/!DCD!/CT16B0_MAT2/SCK1, 45 PIO0_17/!RTS!/CT32B0_CAP0/SCLK, 46 PIO0_18/RXD/CT32B0_MAT0, 47 PIO0_19/TXD/CT32B0_MAT1, 48 PIO1_16/!RI!/CT16B0_CAP0

## LPC11U12FHN33
designator U?, comment 32-bit ARM Cortex-M0 microcontroller; up to 32 kB flash; 6 kB SRAM; USB device; USART The LPC11U1x are an ARM Cortex-M0 based, low-cost 32-bit MCU family, designed for 8/16-bit microcontroller applications, offering performance, low power, simple instruction set and memory addressing together with reduced code size compared to existing 8/16-bit architectures. The LPC11U1x operate at CPU frequencies of up to 50 MHz. Equipped with a highly flexible and configurable Full Speed USB 2.0 device controller, the LPC11U1x brings unparalleled design flexibility and seamless integration to today’s demanding connectivity solutions. The peripheral complement of the LPC11U1x includes up to 32 kB of flash memory, 6 kB of SRAM data memory, one Fast-mode Plus I 2 C-bus interface, one RS-485/EIA-485 USART with support for synchronous mode and smart card interface, two SSP interfaces, four general purpose counter/timers, a 10-bit ADC, and up to 40 general purpose I/O pins.    AAL Eindhoven MK
FLASH: 16kB; GPIO: 26; SRAM: 6kB
footprint SOT-HVQFN33
pins: 1 PIO1_19/!DTR!/SSEL1, 2 !RESET!/PIO0_0, 3 PIO0_1/CLKOUT/CT32B0_MAT2/USB_FTOGGLE, 4 XTALIN, 5 XTALOUT (out), 6 29 VDD (power), 7 PIO0_20/CT16B1_CAP0, 8 PIO0_2/SSEL0/CT16B0_CAP0, 9 PIO0_3/USB_VBUS, 10 PIO0_4/SCL, 11 PIO0_5/SDA, 12 PIO0_21/CT16B1_MAT0, 13 USB_DM, 14 USB_DP, 15 PIO0_6/!USB_CONNECT!/SCK0, 16 PIO0_7/!CTS!, 17 PIO0_8/MISO0/CT16B0_MAT0, 18 PIO0_9/MOSI0/CT16B0_MAT1, 19 SWCLK/PIO0_10/SCK0/CT16B0_MAT2, 20 PIO0_22/AD6/CT16B1_MAT1/MISO1, 21 TDI/PIO0_11/AD0/CT32B0_MAT3, 22 TMS/PIO0_12/AD1/CT32B1_CAP0, 23 TDO/PIO0_13/AD2/CT32B1_MAT0, 24 !TRST!/PIO0_14/AD3/CT32B1_MAT1, 25 SWDIO/PIO0_15/AD4/CT32B1_MAT2, 26 PIO0_16/AD5/CT32B1_MAT3/WAKEUP, 27 PIO0_23/AD7, 28 PIO1_15/!DCD!/CT16B0_MAT2/SCK1, 30 PIO0_17/!RTS!/CT32B0_CAP0/SCLK, 31 PIO0_18/RXD/CT32B0_MAT0, 32 PIO0_19/TXD/CT32B0_MAT1, 33 VSS (power)

## LPC11U13FBD48
designator U?, comment 32-bit ARM Cortex-M0 microcontroller; up to 32 kB flash; 6 kB SRAM; USB device; USART The LPC11U1x are an ARM Cortex-M0 based, low-cost 32-bit MCU family, designed for 8/16-bit microcontroller applications, offering performance, low power, simple instruction set and memory addressing together with reduced code size compared to existing 8/16-bit architectures. The LPC11U1x operate at CPU frequencies of up to 50 MHz. Equipped with a highly flexible and configurable Full Speed USB 2.0 device controller, the LPC11U1x brings unparalleled design flexibility and seamless integration to today’s demanding connectivity solutions. The peripheral complement of the LPC11U1x includes up to 32 kB of flash memory, 6 kB of SRAM data memory, one Fast-mode Plus I 2 C-bus interface, one RS-485/EIA-485 USART with support for synchronous mode and smart card interface, two SSP interfaces, four general purpose counter/timers, a 10-bit ADC, and up to 40 general purpose I/O pins.    AAL Eindhoven MK
FLASH: 24kB; GPIO: 40; SRAM: 6kB
footprint SOT313-2
pins: 1 PIO1_25/CT32B0_MAT1, 2 PIO1_19/!DTR!/SSEL1, 3 !RESET!/PIO0_0, 4 PIO0_1/CLKOUT/CT32B0_MAT2/USB_FTOGGLE, 5 41 VSS (power), 6 XTALIN, 7 XTALOUT (out), 8 44 VDD (power), 9 PIO0_20/CT16B1_CAP0, 10 PIO0_2/SSEL0/CT16B0_CAP0, 11 PIO1_26/CT32B0_MAT2/RXD, 12 PIO1_27/CT32B0_MAT3/TXD, 13 PIO1_20/!DSR!/SCK1, 14 PIO0_3/USB_VBUS, 15 PIO0_4/SCL, 16 PIO0_5/SDA, 17 PIO0_21/CT16B1_MAT0/MOSI1, 18 PIO1_23/CT16B1_MAT1/SSEL1, 19 USB_DM, 20 USB_DP, 21 PIO1_24/CT32B0_MAT0, 22 PIO0_6/!USB_CONNECT!/SCK0, 23 PIO0_7/!CTS!, 24 PIO1_28/CT32B0_CAP0/SCLK, 25 PIO1_31, 26 PIO1_21/!DCD!/MISO1, 27 PIO0_8/MISO0/CT16B0_MAT0, 28 PIO0_9/MOSI0/CT16B0_MAT1, 29 SWCLK/PIO0_10/SCK0/CT16B0_MAT2, 30 PIO0_22/AD6/CT16B1_MAT1/MISO1, 31 PIO1_29/SCK0/CT32B0_CAP1, 32 TDI/PIO0_11/AD0/CT32B0_MAT3, 33 TMS/PIO0_12/AD1/CT32B1_CAP0, 34 TDO/PIO0_13/AD2/CT32B1_MAT0, 35 !TRST!/PIO0_14/AD3/CT32B1_MAT1, 36 PIO1_13/!DTR!/CT16B0_MAT0/TXD, 37 PIO1_14/!DSR!/CT16B0_MAT1/RXD, 38 PIO1_22/!RI!/MOSI1, 39 SWDIO/PIO0_15/AD4/CT32B1_MAT2, 40 PIO0_16/AD5/CT32B1_MAT3/WAKEUP, 42 PIO0_23/AD7, 43 PIO1_15/!DCD!/CT16B0_MAT2/SCK1, 45 PIO0_17/!RTS!/CT32B0_CAP0/SCLK, 46 PIO0_18/RXD/CT32B0_MAT0, 47 PIO0_19/TXD/CT32B0_MAT1, 48 PIO1_16/!RI!/CT16B0_CAP0

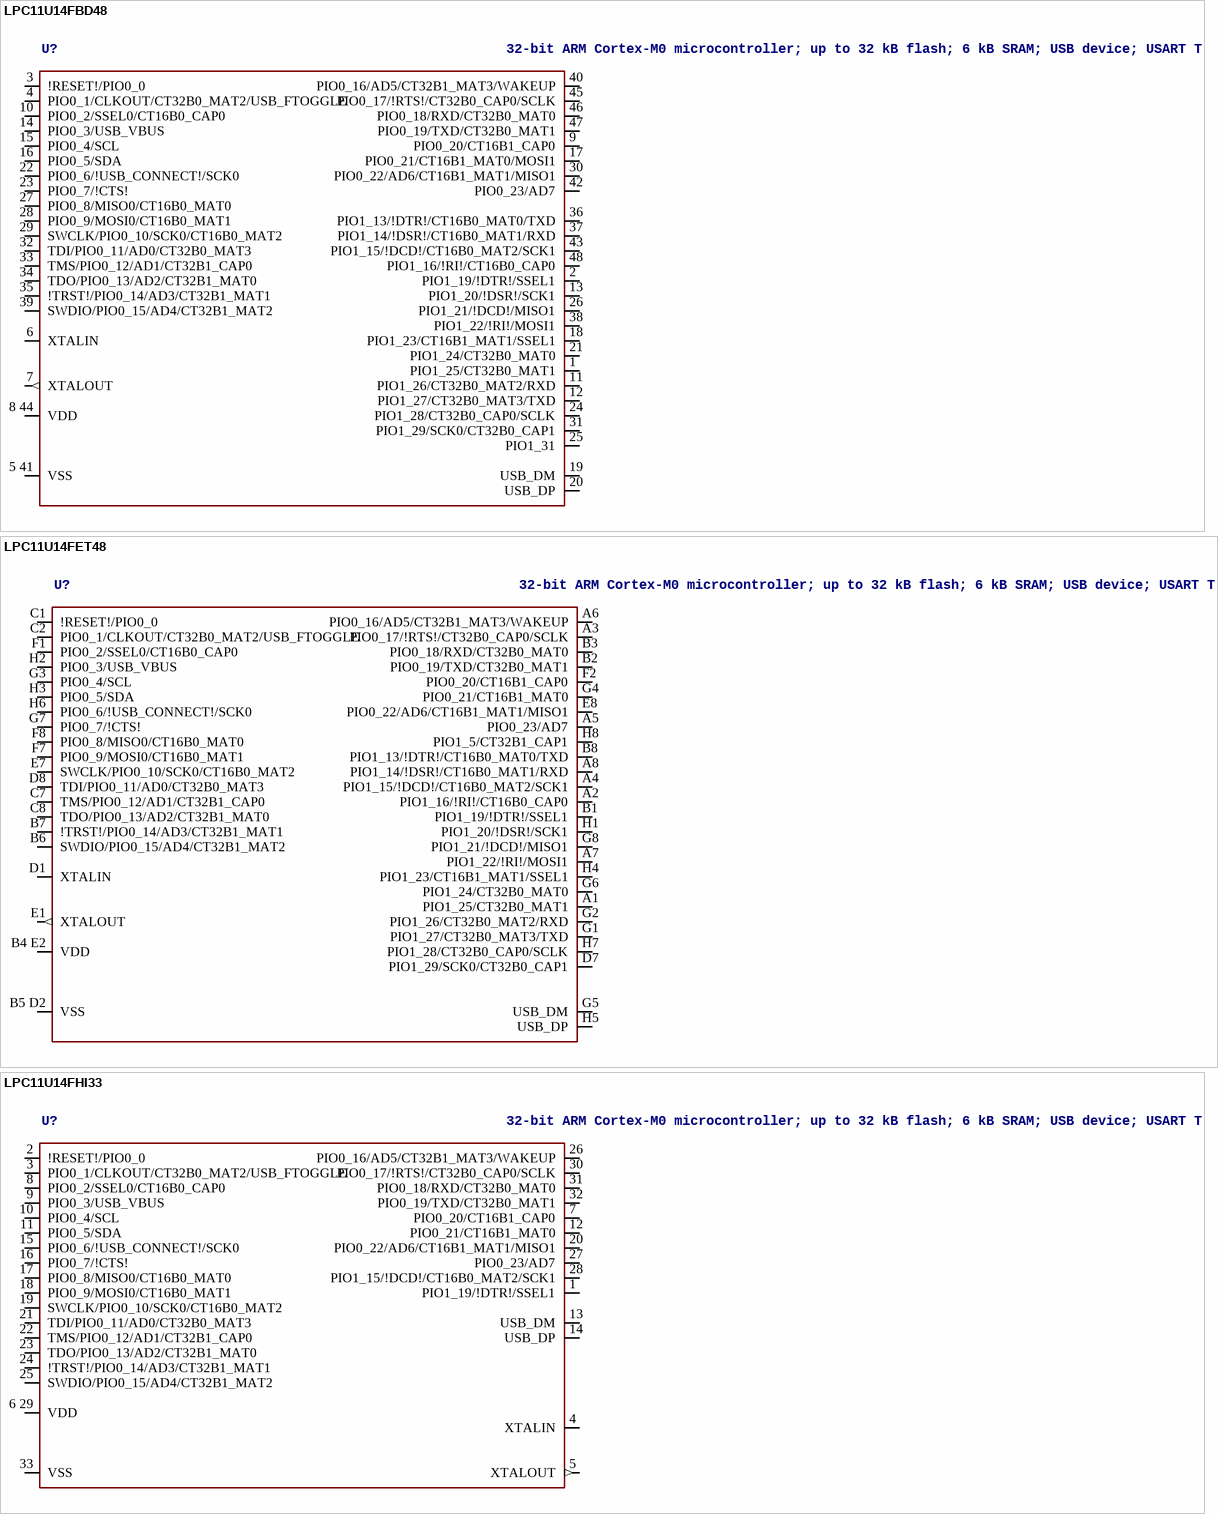
[diagram p45: symbols LPC11U14FBD48 to LPC11U14FHI33]

## LPC11U14FBD48
designator U?, comment 32-bit ARM Cortex-M0 microcontroller; up to 32 kB flash; 6 kB SRAM; USB device; USART The LPC11U1x are an ARM Cortex-M0 based, low-cost 32-bit MCU family, designed for 8/16-bit microcontroller applications, offering performance, low power, simple instruction set and memory addressing together with reduced code size compared to existing 8/16-bit architectures. The LPC11U1x operate at CPU frequencies of up to 50 MHz. Equipped with a highly flexible and configurable Full Speed USB 2.0 device controller, the LPC11U1x brings unparalleled design flexibility and seamless integration to today’s demanding connectivity solutions. The peripheral complement of the LPC11U1x includes up to 32 kB of flash memory, 6 kB of SRAM data memory, one Fast-mode Plus I 2 C-bus interface, one RS-485/EIA-485 USART with support for synchronous mode and smart card interface, two SSP interfaces, four general purpose counter/timers, a 10-bit ADC, and up to 40 general purpose I/O pins.    AAL Eindhoven MK
FLASH: 32kB; GPIO: 40; SRAM: 6kB
footprint SOT313-2
pins: 1 PIO1_25/CT32B0_MAT1, 2 PIO1_19/!DTR!/SSEL1, 3 !RESET!/PIO0_0, 4 PIO0_1/CLKOUT/CT32B0_MAT2/USB_FTOGGLE, 5 41 VSS (power), 6 XTALIN, 7 XTALOUT (out), 8 44 VDD (power), 9 PIO0_20/CT16B1_CAP0, 10 PIO0_2/SSEL0/CT16B0_CAP0, 11 PIO1_26/CT32B0_MAT2/RXD, 12 PIO1_27/CT32B0_MAT3/TXD, 13 PIO1_20/!DSR!/SCK1, 14 PIO0_3/USB_VBUS, 15 PIO0_4/SCL, 16 PIO0_5/SDA, 17 PIO0_21/CT16B1_MAT0/MOSI1, 18 PIO1_23/CT16B1_MAT1/SSEL1, 19 USB_DM, 20 USB_DP, 21 PIO1_24/CT32B0_MAT0, 22 PIO0_6/!USB_CONNECT!/SCK0, 23 PIO0_7/!CTS!, 24 PIO1_28/CT32B0_CAP0/SCLK, 25 PIO1_31, 26 PIO1_21/!DCD!/MISO1, 27 PIO0_8/MISO0/CT16B0_MAT0, 28 PIO0_9/MOSI0/CT16B0_MAT1, 29 SWCLK/PIO0_10/SCK0/CT16B0_MAT2, 30 PIO0_22/AD6/CT16B1_MAT1/MISO1, 31 PIO1_29/SCK0/CT32B0_CAP1, 32 TDI/PIO0_11/AD0/CT32B0_MAT3, 33 TMS/PIO0_12/AD1/CT32B1_CAP0, 34 TDO/PIO0_13/AD2/CT32B1_MAT0, 35 !TRST!/PIO0_14/AD3/CT32B1_MAT1, 36 PIO1_13/!DTR!/CT16B0_MAT0/TXD, 37 PIO1_14/!DSR!/CT16B0_MAT1/RXD, 38 PIO1_22/!RI!/MOSI1, 39 SWDIO/PIO0_15/AD4/CT32B1_MAT2, 40 PIO0_16/AD5/CT32B1_MAT3/WAKEUP, 42 PIO0_23/AD7, 43 PIO1_15/!DCD!/CT16B0_MAT2/SCK1, 45 PIO0_17/!RTS!/CT32B0_CAP0/SCLK, 46 PIO0_18/RXD/CT32B0_MAT0, 47 PIO0_19/TXD/CT32B0_MAT1, 48 PIO1_16/!RI!/CT16B0_CAP0

## LPC11U14FET48
designator U?, comment 32-bit ARM Cortex-M0 microcontroller; up to 32 kB flash; 6 kB SRAM; USB device; USART The LPC11U1x are an ARM Cortex-M0 based, low-cost 32-bit MCU family, designed for 8/16-bit microcontroller applications, offering performance, low power, simple instruction set and memory addressing together with reduced code size compared to existing 8/16-bit architectures. The LPC11U1x operate at CPU frequencies of up to 50 MHz. Equipped with a highly flexible and configurable Full Speed USB 2.0 device controller, the LPC11U1x brings unparalleled design flexibility and seamless integration to today’s demanding connectivity solutions. The peripheral complement of the LPC11U1x includes up to 32 kB of flash memory, 6 kB of SRAM data memory, one Fast-mode Plus I 2 C-bus interface, one RS-485/EIA-485 USART with support for synchronous mode and smart card interface, two SSP interfaces, four general purpose counter/timers, a 10-bit ADC, and up to 40 general purpose I/O pins.    AAL Eindhoven MK
FLASH: 32kB; GPIO: 40; SRAM: 6kB
footprint SOT1155-2
pins: A1 PIO1_25/CT32B0_MAT1, A2 PIO1_16/!RI!/CT16B0_CAP0, A3 PIO0_17/!RTS!/CT32B0_CAP0/SCLK, A4 PIO1_15/!DCD!/CT16B0_MAT2/SCK1, A5 PIO0_23/AD7, A6 PIO0_16/AD5/CT32B1_MAT3/WAKEUP, A7 PIO1_22/!RI!/MOSI1, A8 PIO1_14/!DSR!/CT16B0_MAT1/RXD, B1 PIO1_19/!DTR!/SSEL1, B2 PIO0_19/TXD/CT32B0_MAT1, B3 PIO0_18/RXD/CT32B0_MAT0, B4 E2 VDD (power), B5 D2 VSS (power), B6 SWDIO/PIO0_15/AD4/CT32B1_MAT2, B7 !TRST!/PIO0_14/AD3/CT32B1_MAT1, B8 PIO1_13/!DTR!/CT16B0_MAT0/TXD, C1 !RESET!/PIO0_0, C2 PIO0_1/CLKOUT/CT32B0_MAT2/USB_FTOGGLE, C7 TMS/PIO0_12/AD1/CT32B1_CAP0, C8 TDO/PIO0_13/AD2/CT32B1_MAT0, D1 XTALIN, D7 PIO1_29/SCK0/CT32B0_CAP1, D8 TDI/PIO0_11/AD0/CT32B0_MAT3, E1 XTALOUT (out), E7 SWCLK/PIO0_10/SCK0/CT16B0_MAT2, E8 PIO0_22/AD6/CT16B1_MAT1/MISO1, F1 PIO0_2/SSEL0/CT16B0_CAP0, F2 PIO0_20/CT16B1_CAP0, F7 PIO0_9/MOSI0/CT16B0_MAT1, F8 PIO0_8/MISO0/CT16B0_MAT0, G1 PIO1_27/CT32B0_MAT3/TXD, G2 PIO1_26/CT32B0_MAT2/RXD, G3 PIO0_4/SCL, G4 PIO0_21/CT16B1_MAT0, G5 USB_DM, G6 PIO1_24/CT32B0_MAT0, G7 PIO0_7/!CTS!, G8 PIO1_21/!DCD!/MISO1, H1 PIO1_20/!DSR!/SCK1, H2 PIO0_3/USB_VBUS, H3 PIO0_5/SDA, H4 PIO1_23/CT16B1_MAT1/SSEL1, H5 USB_DP, H6 PIO0_6/!USB_CONNECT!/SCK0, H7 PIO1_28/CT32B0_CAP0/SCLK, H8 PIO1_5/CT32B1_CAP1

## LPC11U14FHI33
designator U?, comment 32-bit ARM Cortex-M0 microcontroller; up to 32 kB flash; 6 kB SRAM; USB device; USART The LPC11U1x are an ARM Cortex-M0 based, low-cost 32-bit MCU family, designed for 8/16-bit microcontroller applications, offering performance, low power, simple instruction set and memory addressing together with reduced code size compared to existing 8/16-bit architectures. The LPC11U1x operate at CPU frequencies of up to 50 MHz. Equipped with a highly flexible and configurable Full Speed USB 2.0 device controller, the LPC11U1x brings unparalleled design flexibility and seamless integration to today’s demanding connectivity solutions. The peripheral complement of the LPC11U1x includes up to 32 kB of flash memory, 6 kB of SRAM data memory, one Fast-mode Plus I 2 C-bus interface, one RS-485/EIA-485 USART with support for synchronous mode and smart card interface, two SSP interfaces, four general purpose counter/timers, a 10-bit ADC, and up to 40 general purpose I/O pins.    AAL Eindhoven MK
FLASH: 32kB; GPIO: 26; SRAM: 6kB
footprint SOT617-3
pins: 1 PIO1_19/!DTR!/SSEL1, 2 !RESET!/PIO0_0, 3 PIO0_1/CLKOUT/CT32B0_MAT2/USB_FTOGGLE, 4 XTALIN, 5 XTALOUT (out), 6 29 VDD (power), 7 PIO0_20/CT16B1_CAP0, 8 PIO0_2/SSEL0/CT16B0_CAP0, 9 PIO0_3/USB_VBUS, 10 PIO0_4/SCL, 11 PIO0_5/SDA, 12 PIO0_21/CT16B1_MAT0, 13 USB_DM, 14 USB_DP, 15 PIO0_6/!USB_CONNECT!/SCK0, 16 PIO0_7/!CTS!, 17 PIO0_8/MISO0/CT16B0_MAT0, 18 PIO0_9/MOSI0/CT16B0_MAT1, 19 SWCLK/PIO0_10/SCK0/CT16B0_MAT2, 20 PIO0_22/AD6/CT16B1_MAT1/MISO1, 21 TDI/PIO0_11/AD0/CT32B0_MAT3, 22 TMS/PIO0_12/AD1/CT32B1_CAP0, 23 TDO/PIO0_13/AD2/CT32B1_MAT0, 24 !TRST!/PIO0_14/AD3/CT32B1_MAT1, 25 SWDIO/PIO0_15/AD4/CT32B1_MAT2, 26 PIO0_16/AD5/CT32B1_MAT3/WAKEUP, 27 PIO0_23/AD7, 28 PIO1_15/!DCD!/CT16B0_MAT2/SCK1, 30 PIO0_17/!RTS!/CT32B0_CAP0/SCLK, 31 PIO0_18/RXD/CT32B0_MAT0, 32 PIO0_19/TXD/CT32B0_MAT1, 33 VSS (power)

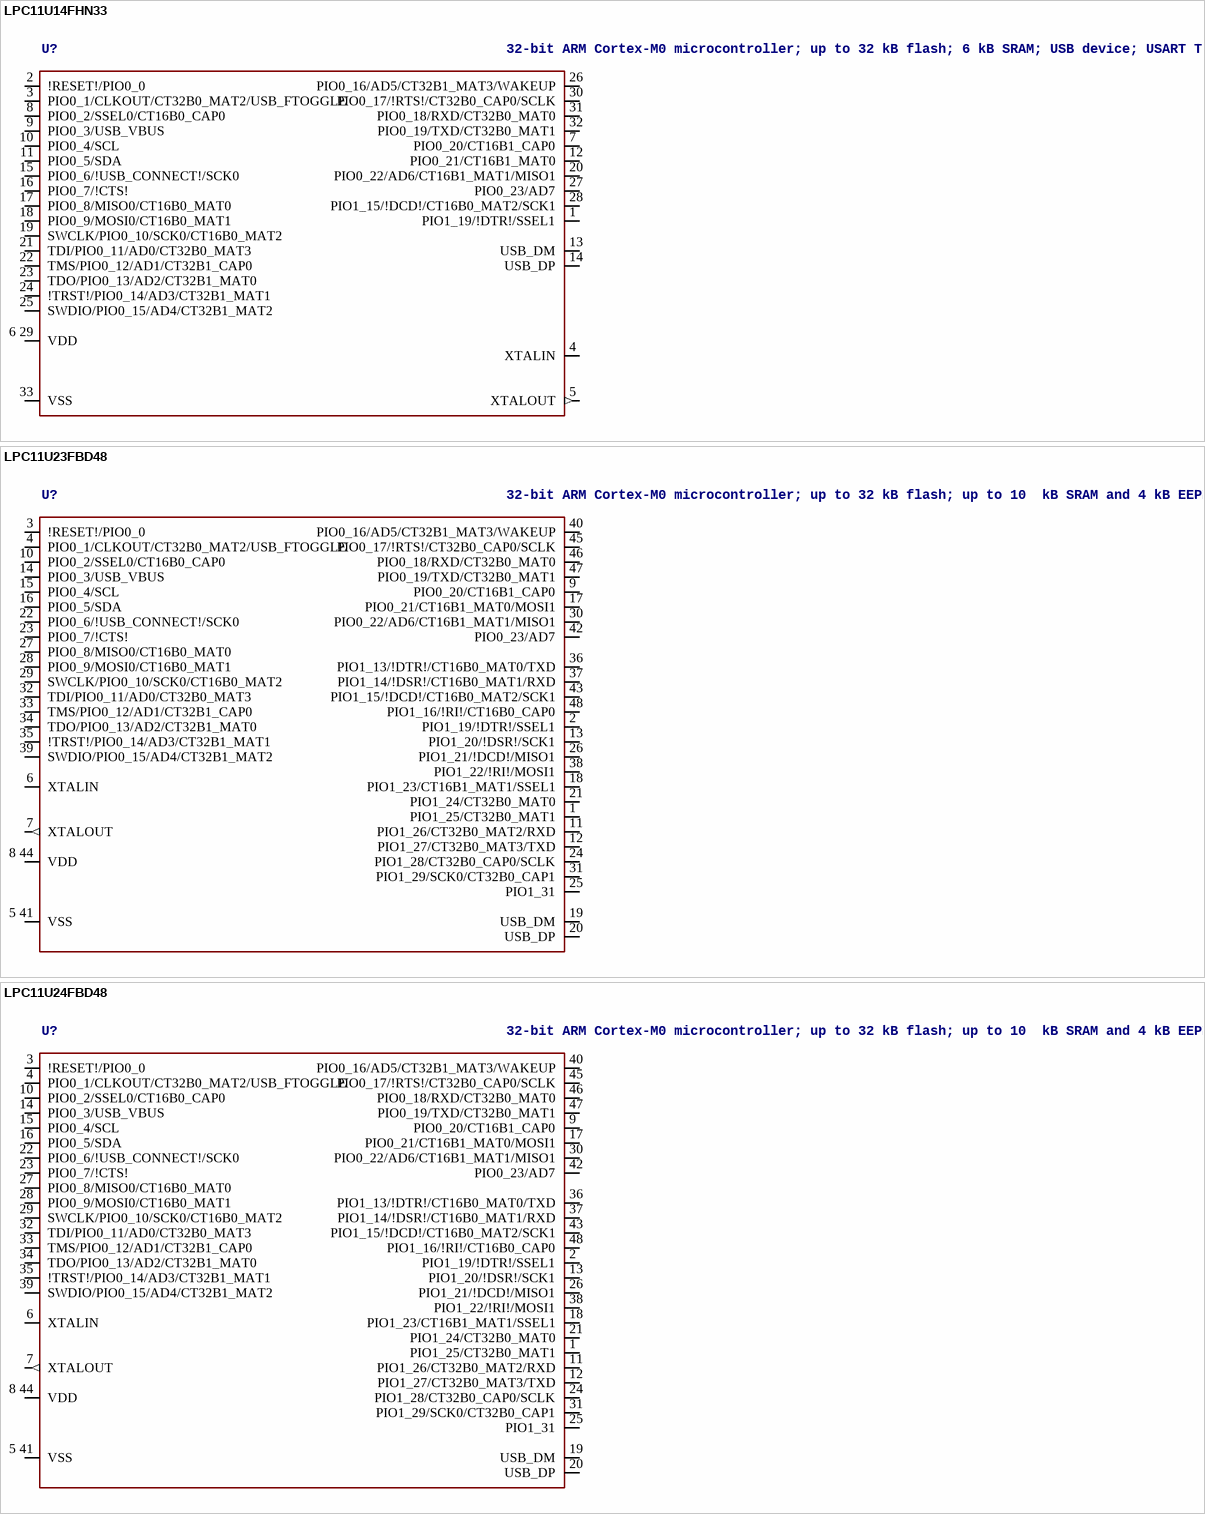
[diagram p46: symbols LPC11U14FHN33 to LPC11U24FBD48]

## LPC11U14FHN33
designator U?, comment 32-bit ARM Cortex-M0 microcontroller; up to 32 kB flash; 6 kB SRAM; USB device; USART The LPC11U1x are an ARM Cortex-M0 based, low-cost 32-bit MCU family, designed for 8/16-bit microcontroller applications, offering performance, low power, simple instruction set and memory addressing together with reduced code size compared to existing 8/16-bit architectures. The LPC11U1x operate at CPU frequencies of up to 50 MHz. Equipped with a highly flexible and configurable Full Speed USB 2.0 device controller, the LPC11U1x brings unparalleled design flexibility and seamless integration to today’s demanding connectivity solutions. The peripheral complement of the LPC11U1x includes up to 32 kB of flash memory, 6 kB of SRAM data memory, one Fast-mode Plus I 2 C-bus interface, one RS-485/EIA-485 USART with support for synchronous mode and smart card interface, two SSP interfaces, four general purpose counter/timers, a 10-bit ADC, and up to 40 general purpose I/O pins.    AAL Eindhoven MK
FLASH: 32kB; GPIO: 26; SRAM: 6kB
footprint SOT-HVQFN33
pins: 1 PIO1_19/!DTR!/SSEL1, 2 !RESET!/PIO0_0, 3 PIO0_1/CLKOUT/CT32B0_MAT2/USB_FTOGGLE, 4 XTALIN, 5 XTALOUT (out), 6 29 VDD (power), 7 PIO0_20/CT16B1_CAP0, 8 PIO0_2/SSEL0/CT16B0_CAP0, 9 PIO0_3/USB_VBUS, 10 PIO0_4/SCL, 11 PIO0_5/SDA, 12 PIO0_21/CT16B1_MAT0, 13 USB_DM, 14 USB_DP, 15 PIO0_6/!USB_CONNECT!/SCK0, 16 PIO0_7/!CTS!, 17 PIO0_8/MISO0/CT16B0_MAT0, 18 PIO0_9/MOSI0/CT16B0_MAT1, 19 SWCLK/PIO0_10/SCK0/CT16B0_MAT2, 20 PIO0_22/AD6/CT16B1_MAT1/MISO1, 21 TDI/PIO0_11/AD0/CT32B0_MAT3, 22 TMS/PIO0_12/AD1/CT32B1_CAP0, 23 TDO/PIO0_13/AD2/CT32B1_MAT0, 24 !TRST!/PIO0_14/AD3/CT32B1_MAT1, 25 SWDIO/PIO0_15/AD4/CT32B1_MAT2, 26 PIO0_16/AD5/CT32B1_MAT3/WAKEUP, 27 PIO0_23/AD7, 28 PIO1_15/!DCD!/CT16B0_MAT2/SCK1, 30 PIO0_17/!RTS!/CT32B0_CAP0/SCLK, 31 PIO0_18/RXD/CT32B0_MAT0, 32 PIO0_19/TXD/CT32B0_MAT1, 33 VSS (power)

## LPC11U23FBD48
designator U?, comment 32-bit ARM Cortex-M0 microcontroller; up to 32 kB flash; up to 10  kB SRAM and 4 kB EEPROM; USB device; USART The LPC11U2x are an ARM Cortex-M0 based, low-cost 32-bit MCU family, designed for 8/16-bit microcontroller applications, offering performance, low power, simple instruction set and memory addressing together with reduced code size compared to existing 8/16-bit architectures. The LPC11U2x operate at CPU frequencies of up to 50 MHz. Equipped with a highly flexible and configurable Full-Speed USB 2.0 device controller, the LPC11U2x brings unparalleled design flexibility and seamless integration to today’s demanding connectivity solutions. The peripheral complement of the LPC11U2x includes up to 32 kB of flash memory, up to 10 kB of SRAM data memory and 4 kB EEPROM, one Fast-mode Plus I 2 C-bus interface, one RS-485/EIA-485 USART with support for synchronous mode and smart card interface, two SSP interfaces, four general-purpose counter/timers, a 10-bit ADC (Analog-to-Digital Converter), and up to 54 general-purpose I/O pins.   AAL Eindhoven MK
EEPROM: 1kB; FLASH: 24kB; GPIO: 40; SRAM: 6kB; USB_SRAM: 2kB
footprint SOT313-2
pins: 1 PIO1_25/CT32B0_MAT1, 2 PIO1_19/!DTR!/SSEL1, 3 !RESET!/PIO0_0, 4 PIO0_1/CLKOUT/CT32B0_MAT2/USB_FTOGGLE, 5 41 VSS (power), 6 XTALIN, 7 XTALOUT (out), 8 44 VDD (power), 9 PIO0_20/CT16B1_CAP0, 10 PIO0_2/SSEL0/CT16B0_CAP0, 11 PIO1_26/CT32B0_MAT2/RXD, 12 PIO1_27/CT32B0_MAT3/TXD, 13 PIO1_20/!DSR!/SCK1, 14 PIO0_3/USB_VBUS, 15 PIO0_4/SCL, 16 PIO0_5/SDA, 17 PIO0_21/CT16B1_MAT0/MOSI1, 18 PIO1_23/CT16B1_MAT1/SSEL1, 19 USB_DM, 20 USB_DP, 21 PIO1_24/CT32B0_MAT0, 22 PIO0_6/!USB_CONNECT!/SCK0, 23 PIO0_7/!CTS!, 24 PIO1_28/CT32B0_CAP0/SCLK, 25 PIO1_31, 26 PIO1_21/!DCD!/MISO1, 27 PIO0_8/MISO0/CT16B0_MAT0, 28 PIO0_9/MOSI0/CT16B0_MAT1, 29 SWCLK/PIO0_10/SCK0/CT16B0_MAT2, 30 PIO0_22/AD6/CT16B1_MAT1/MISO1, 31 PIO1_29/SCK0/CT32B0_CAP1, 32 TDI/PIO0_11/AD0/CT32B0_MAT3, 33 TMS/PIO0_12/AD1/CT32B1_CAP0, 34 TDO/PIO0_13/AD2/CT32B1_MAT0, 35 !TRST!/PIO0_14/AD3/CT32B1_MAT1, 36 PIO1_13/!DTR!/CT16B0_MAT0/TXD, 37 PIO1_14/!DSR!/CT16B0_MAT1/RXD, 38 PIO1_22/!RI!/MOSI1, 39 SWDIO/PIO0_15/AD4/CT32B1_MAT2, 40 PIO0_16/AD5/CT32B1_MAT3/WAKEUP, 42 PIO0_23/AD7, 43 PIO1_15/!DCD!/CT16B0_MAT2/SCK1, 45 PIO0_17/!RTS!/CT32B0_CAP0/SCLK, 46 PIO0_18/RXD/CT32B0_MAT0, 47 PIO0_19/TXD/CT32B0_MAT1, 48 PIO1_16/!RI!/CT16B0_CAP0

## LPC11U24FBD48
designator U?, comment 32-bit ARM Cortex-M0 microcontroller; up to 32 kB flash; up to 10  kB SRAM and 4 kB EEPROM; USB device; USART The LPC11U2x are an ARM Cortex-M0 based, low-cost 32-bit MCU family, designed for 8/16-bit microcontroller applications, offering performance, low power, simple instruction set and memory addressing together with reduced code size compared to existing 8/16-bit architectures. The LPC11U2x operate at CPU frequencies of up to 50 MHz. Equipped with a highly flexible and configurable Full-Speed USB 2.0 device controller, the LPC11U2x brings unparalleled design flexibility and seamless integration to today’s demanding connectivity solutions. The peripheral complement of the LPC11U2x includes up to 32 kB of flash memory, up to 10 kB of SRAM data memory and 4 kB EEPROM, one Fast-mode Plus I 2 C-bus interface, one RS-485/EIA-485 USART with support for synchronous mode and smart card interface, two SSP interfaces, four general-purpose counter/timers, a 10-bit ADC (Analog-to-Digital Converter), and up to 54 general-purpose I/O pins.   AAL Eindhoven MK
EEPROM: 2kB; FLASH: 32kB; GPIO: 40; SRAM: 6kB; EEPROM: 4kB; SRAM: 8kB; USB_SRAM: 2kB
footprint SOT313-2
pins: 1 PIO1_25/CT32B0_MAT1, 2 PIO1_19/!DTR!/SSEL1, 3 !RESET!/PIO0_0, 4 PIO0_1/CLKOUT/CT32B0_MAT2/USB_FTOGGLE, 5 41 VSS (power), 6 XTALIN, 7 XTALOUT (out), 8 44 VDD (power), 9 PIO0_20/CT16B1_CAP0, 10 PIO0_2/SSEL0/CT16B0_CAP0, 11 PIO1_26/CT32B0_MAT2/RXD, 12 PIO1_27/CT32B0_MAT3/TXD, 13 PIO1_20/!DSR!/SCK1, 14 PIO0_3/USB_VBUS, 15 PIO0_4/SCL, 16 PIO0_5/SDA, 17 PIO0_21/CT16B1_MAT0/MOSI1, 18 PIO1_23/CT16B1_MAT1/SSEL1, 19 USB_DM, 20 USB_DP, 21 PIO1_24/CT32B0_MAT0, 22 PIO0_6/!USB_CONNECT!/SCK0, 23 PIO0_7/!CTS!, 24 PIO1_28/CT32B0_CAP0/SCLK, 25 PIO1_31, 26 PIO1_21/!DCD!/MISO1, 27 PIO0_8/MISO0/CT16B0_MAT0, 28 PIO0_9/MOSI0/CT16B0_MAT1, 29 SWCLK/PIO0_10/SCK0/CT16B0_MAT2, 30 PIO0_22/AD6/CT16B1_MAT1/MISO1, 31 PIO1_29/SCK0/CT32B0_CAP1, 32 TDI/PIO0_11/AD0/CT32B0_MAT3, 33 TMS/PIO0_12/AD1/CT32B1_CAP0, 34 TDO/PIO0_13/AD2/CT32B1_MAT0, 35 !TRST!/PIO0_14/AD3/CT32B1_MAT1, 36 PIO1_13/!DTR!/CT16B0_MAT0/TXD, 37 PIO1_14/!DSR!/CT16B0_MAT1/RXD, 38 PIO1_22/!RI!/MOSI1, 39 SWDIO/PIO0_15/AD4/CT32B1_MAT2, 40 PIO0_16/AD5/CT32B1_MAT3/WAKEUP, 42 PIO0_23/AD7, 43 PIO1_15/!DCD!/CT16B0_MAT2/SCK1, 45 PIO0_17/!RTS!/CT32B0_CAP0/SCLK, 46 PIO0_18/RXD/CT32B0_MAT0, 47 PIO0_19/TXD/CT32B0_MAT1, 48 PIO1_16/!RI!/CT16B0_CAP0

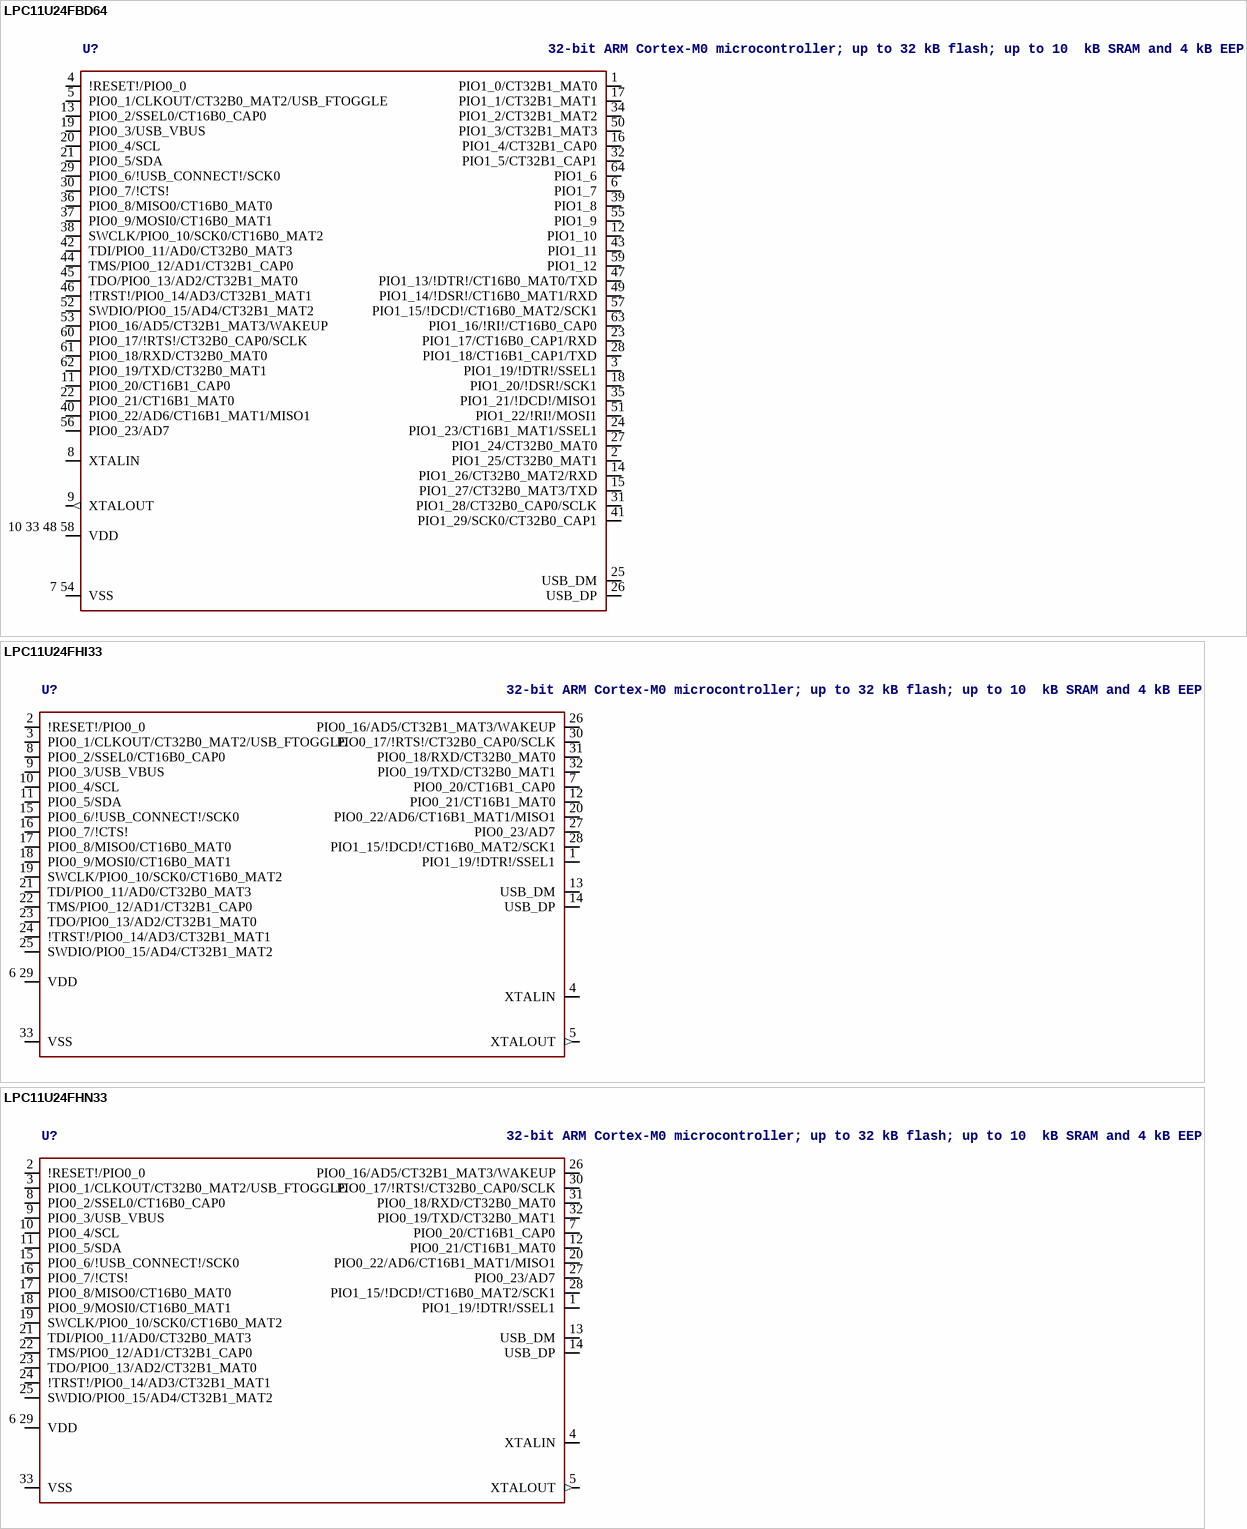
[diagram p47: symbols LPC11U24FBD64 to LPC11U24FHN33]